# Altium integrated library Lattice FPGA MachXO2.IntLib: 444 symbols (part 36 of 39)
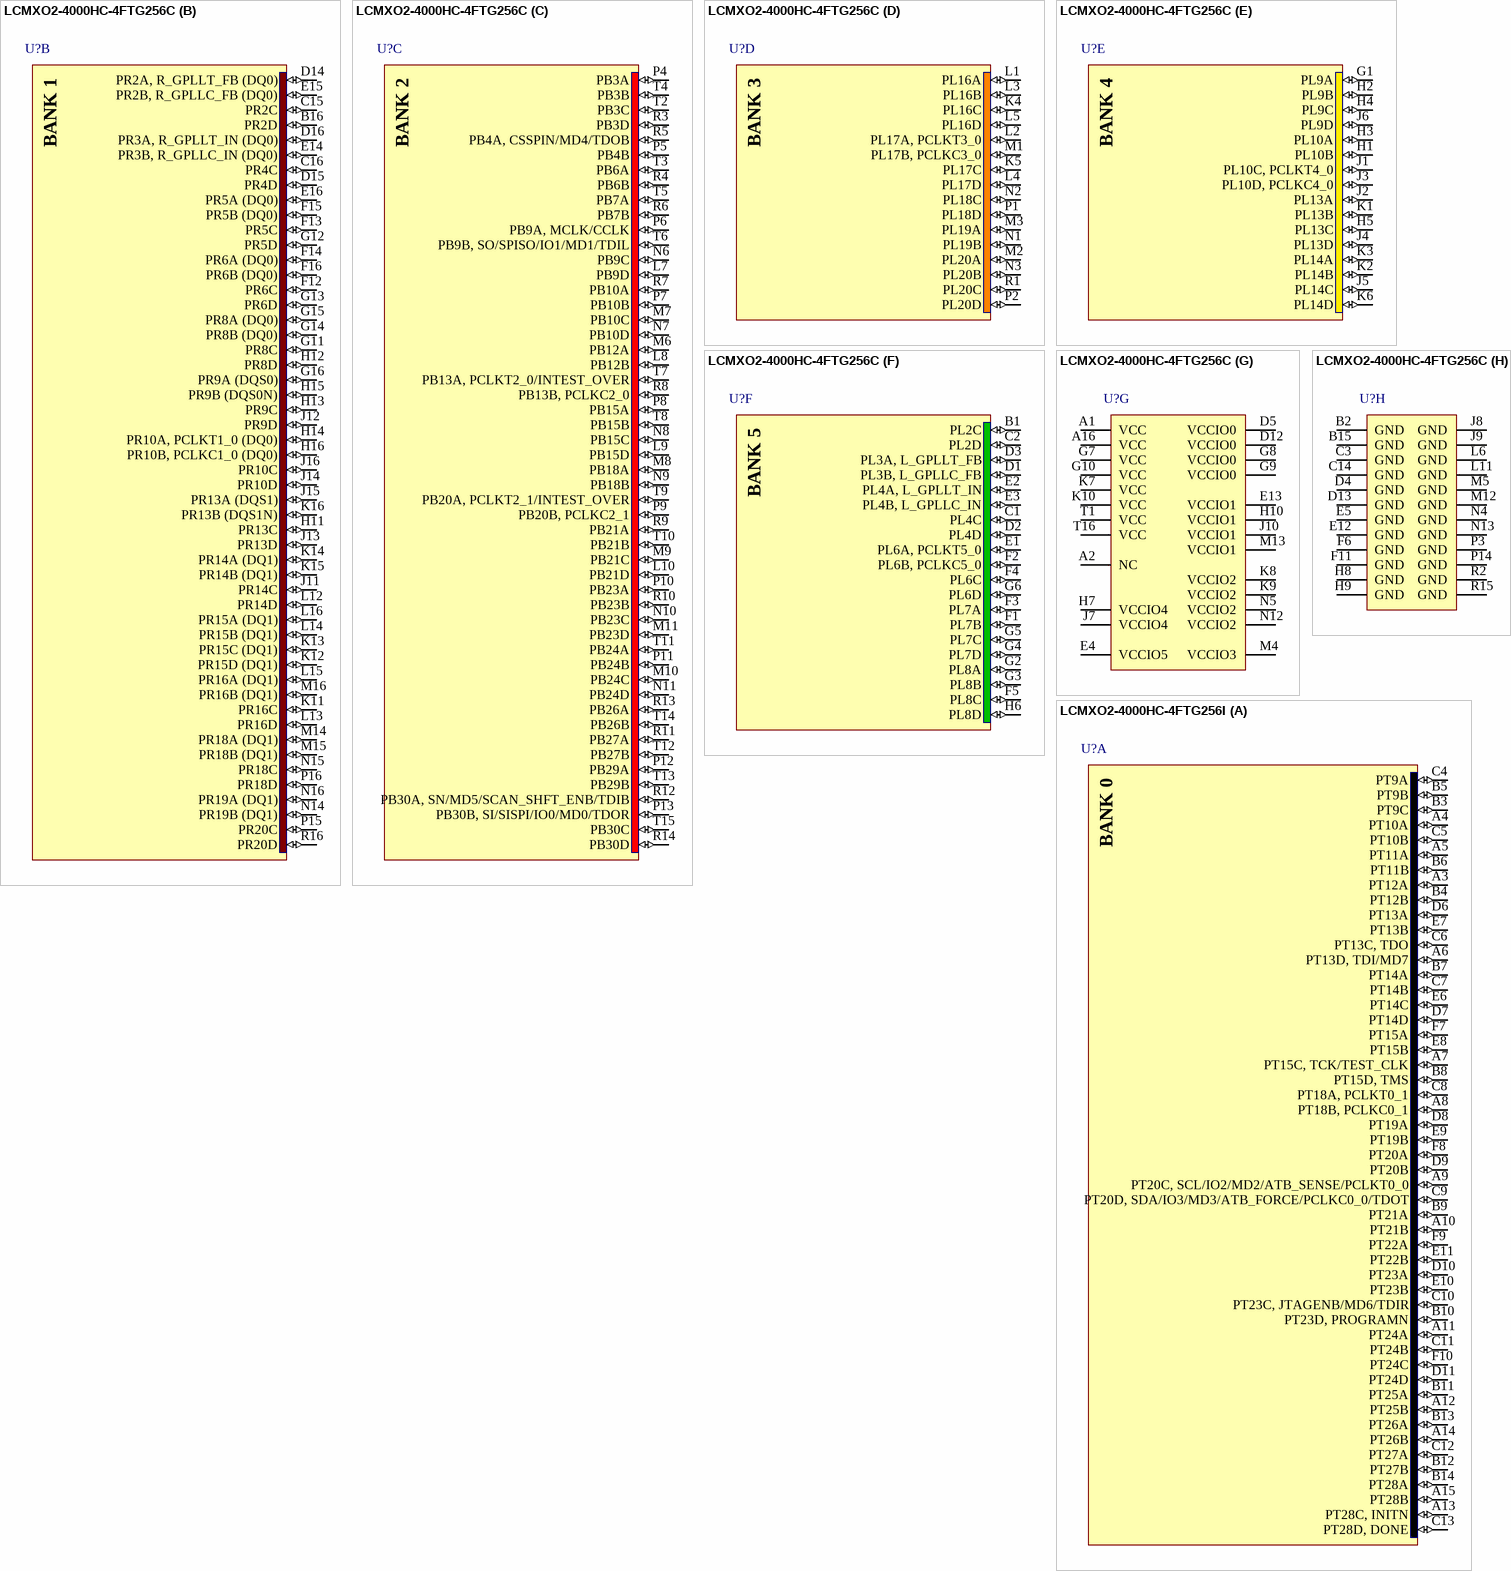
[diagram p341: symbols LCMXO2-4000HC-4FTG256C to LCMXO2-4000HC-4FTG256I]

## LCMXO2-4000HC-4FTG256C
designator U?
MachXO2 High Performance CPLD with 4320 LUTs, Voltage Regulator, 2.5V/3.3V, 256-pin ftBGA, Speed Grade-4, Commercial Grade, Halogen Free (RoHS); DatasheetVersion: ver01.5, Aug-2011; PackageVersion: ver02.8, Jul-2011; PackageReference: ftBGA256; PackageDescription: 256-Ball Fine Thin Ball Grid Array (ftBGA256); ComponentLink1Description: Manufacturer URL; ComponentLink1URL: http://www.latticesemi.com/; ComponentLink2Description: Datasheet; ComponentLink2URL: http://www.latticesemi.com/documents/DS1035.pdf; ComponentLink3Description: Package Specification; ComponentLink3URL: http://www.latticesemi.com/lit/docs/package/pkg.pdf
footprint ftBGA256 (BGA, 256-Leads, Body 17x17mm, Pitch 1mm)
part A pins: A3 PT12A (io), A4 PT10A (io), A5 PT11A (io), A6 PT13D, TDI/MD7 (io), A7 PT15C, TCK/TEST_CLK (io), A8 PT18B, PCLKC0_1 (io), A9 PT20C, SCL/IO2/MD2/ATB_SENSE/PCLKT0_0 (io), A10 PT21B (io), A11 PT24A (io), A12 PT25B (io), A13 PT28C, INITN (io), A14 PT26B (io), A15 PT28B (io), B3 PT9C (io), B4 PT12B (io), B5 PT9B (io), B6 PT11B (io), B7 PT14A (io), B8 PT15D, TMS (io), B9 PT21A (io), B10 PT23D, PROGRAMN (io), B11 PT25A (io), B12 PT27B (io), B13 PT26A (io), B14 PT28A (io), C4 PT9A (io), C5 PT10B (io), C6 PT13C, TDO (io), C7 PT14B (io), C8 PT18A, PCLKT0_1 (io), C9 PT20D, SDA/IO3/MD3/ATB_FORCE/PCLKC0_0/TDOT (io), C10 PT23C, JTAGENB/MD6/TDIR (io), C11 PT24B (io), C12 PT27A (io), C13 PT28D, DONE (io), D6 PT13A (io), D7 PT14D (io), D8 PT19A (io), D9 PT20B (io), D10 PT23A (io), D11 PT24D (io), E6 PT14C (io), E7 PT13B (io), E8 PT15B (io), E9 PT19B (io), E10 PT23B (io), E11 PT22B (io), F7 PT15A (io), F8 PT20A (io), F9 PT22A (io), F10 PT24C (io)
part B pins: B16 PR2D (io), C15 PR2C (io), C16 PR4C (io), D14 PR2A, R_GPLLT_FB (DQ0) (io), D15 PR4D (io), D16 PR3A, R_GPLLT_IN (DQ0) (io), E14 PR3B, R_GPLLC_IN (DQ0) (io), E15 PR2B, R_GPLLC_FB (DQ0) (io), E16 PR5A (DQ0) (io), F12 PR6C (io), F13 PR5C (io), F14 PR6A (DQ0) (io), F15 PR5B (DQ0) (io), F16 PR6B (DQ0) (io), G11 PR8C (io), G12 PR5D (io), G13 PR6D (io), G14 PR8B (DQ0) (io), G15 PR8A (DQ0) (io), G16 PR9A (DQS0) (io), H11 PR13C (io), H12 PR8D (io), H13 PR9C (io), H14 PR10A, PCLKT1_0 (DQ0) (io), H15 PR9B (DQS0N) (io), H16 PR10B, PCLKC1_0 (DQ0) (io), J11 PR14C (io), J12 PR9D (io), J13 PR13D (io), J14 PR10D (io), J15 PR13A (DQS1) (io), J16 PR10C (io), K11 PR16C (io), K12 PR15D (DQ1) (io), K13 PR15C (DQ1) (io), K14 PR14A (DQ1) (io), K15 PR14B (DQ1) (io), K16 PR13B (DQS1N) (io), L12 PR14D (io), L13 PR16D (io), L14 PR15B (DQ1) (io), L15 PR16A (DQ1) (io), L16 PR15A (DQ1) (io), M14 PR18A (DQ1) (io), M15 PR18B (DQ1) (io), M16 PR16B (DQ1) (io), N14 PR19B (DQ1) (io), N15 PR18C (io), N16 PR19A (DQ1) (io), P15 PR20C (io), P16 PR18D (io), R16 PR20D (io)
part C pins: L7 PB9D (io), L8 PB12B (io), L9 PB15D (io), L10 PB21D (io), M6 PB12A (io), M7 PB10C (io), M8 PB18A (io), M9 PB21C (io), M10 PB24C (io), M11 PB23D (io), N6 PB9C (io), N7 PB10D (io), N8 PB15C (io), N9 PB18B (io), N10 PB23C (io), N11 PB24D (io), P4 PB3A (io), P5 PB4B (io), P6 PB9A, MCLK/CCLK (io), P7 PB10B (io), P8 PB15A (io), P9 PB20B, PCLKC2_1 (io), P10 PB23A (io), P11 PB24B (io), P12 PB29A (io), P13 PB30B, SI/SISPI/IO0/MD0/TDOR (io), R3 PB3D (io), R4 PB6B (io), R5 PB4A, CSSPIN/MD4/TDOB (io), R6 PB7B (io), R7 PB10A (io), R8 PB13B, PCLKC2_0 (io), R9 PB21A (io), R10 PB23B (io), R11 PB27A (io), R12 PB30A, SN/MD5/SCAN_SHFT_ENB/TDIB (io), R13 PB26A (io), R14 PB30D (io), T2 PB3C (io), T3 PB6A (io), T4 PB3B (io), T5 PB7A (io), T6 PB9B, SO/SPISO/IO1/MD1/TDIL (io), T7 PB13A, PCLKT2_0/INTEST_OVER (io), T8 PB15B (io), T9 PB20A, PCLKT2_1/INTEST_OVER (io), T10 PB21B (io), T11 PB24A (io), T12 PB27B (io), T13 PB29B (io), T14 PB26B (io), T15 PB30C (io)
part D pins: K4 PL16C (io), K5 PL17C (io), L1 PL16A (io), L2 PL17A, PCLKT3_0 (io), L3 PL16B (io), L4 PL17D (io), L5 PL16D (io), M1 PL17B, PCLKC3_0 (io), M2 PL20A (io), M3 PL19A (io), N1 PL19B (io), N2 PL18C (io), N3 PL20B (io), P1 PL18D (io), P2 PL20D (io), R1 PL20C (io)
part E pins: G1 PL9A (io), H1 PL10B (io), H2 PL9B (io), H3 PL10A (io), H4 PL9C (io), H5 PL13C (io), J1 PL10C, PCLKT4_0 (io), J2 PL13A (io), J3 PL10D, PCLKC4_0 (io), J4 PL13D (io), J5 PL14C (io), J6 PL9D (io), K1 PL13B (io), K2 PL14B (io), K3 PL14A (io), K6 PL14D (io)
part F pins: B1 PL2C (io), C1 PL4C (io), C2 PL2D (io), D1 PL3B, L_GPLLC_FB (io), D2 PL4D (io), D3 PL3A, L_GPLLT_FB (io), E1 PL6A, PCLKT5_0 (io), E2 PL4A, L_GPLLT_IN (io), E3 PL4B, L_GPLLC_IN (io), F1 PL7B (io), F2 PL6B, PCLKC5_0 (io), F3 PL7A (io), F4 PL6C (io), F5 PL8C (io), G2 PL8A (io), G3 PL8B (io), G4 PL7D (io), G5 PL7C (io), G6 PL6D (io), H6 PL8D (io)
part G pins: A1 VCC (power), A2 NC, A16 VCC (power), D5 VCCIO0 (power), D12 VCCIO0 (power), E4 VCCIO5 (power), E13 VCCIO1 (power), G7 VCC (power), G8 VCCIO0 (power), G9 VCCIO0 (power), G10 VCC (power), H7 VCCIO4 (power), H10 VCCIO1 (power), J7 VCCIO4 (power), J10 VCCIO1 (power), K7 VCC (power), K8 VCCIO2 (power), K9 VCCIO2 (power), K10 VCC (power), M4 VCCIO3 (power), M13 VCCIO1 (power), N5 VCCIO2 (power), N12 VCCIO2 (power), T1 VCC (power), T16 VCC (power)
part H pins: B2 GND (power), B15 GND (power), C3 GND (power), C14 GND (power), D4 GND (power), D13 GND (power), E5 GND (power), E12 GND (power), F6 GND (power), F11 GND (power), H8 GND (power), H9 GND (power), J8 GND (power), J9 GND (power), L6 GND (power), L11 GND (power), M5 GND (power), M12 GND (power), N4 GND (power), N13 GND (power), P3 GND (power), P14 GND (power), R2 GND (power), R15 GND (power)
part A text: BANK 0
part B text: BANK 1
part C text: BANK 2
part D text: BANK 3
part E text: BANK 4
part F text: BANK 5

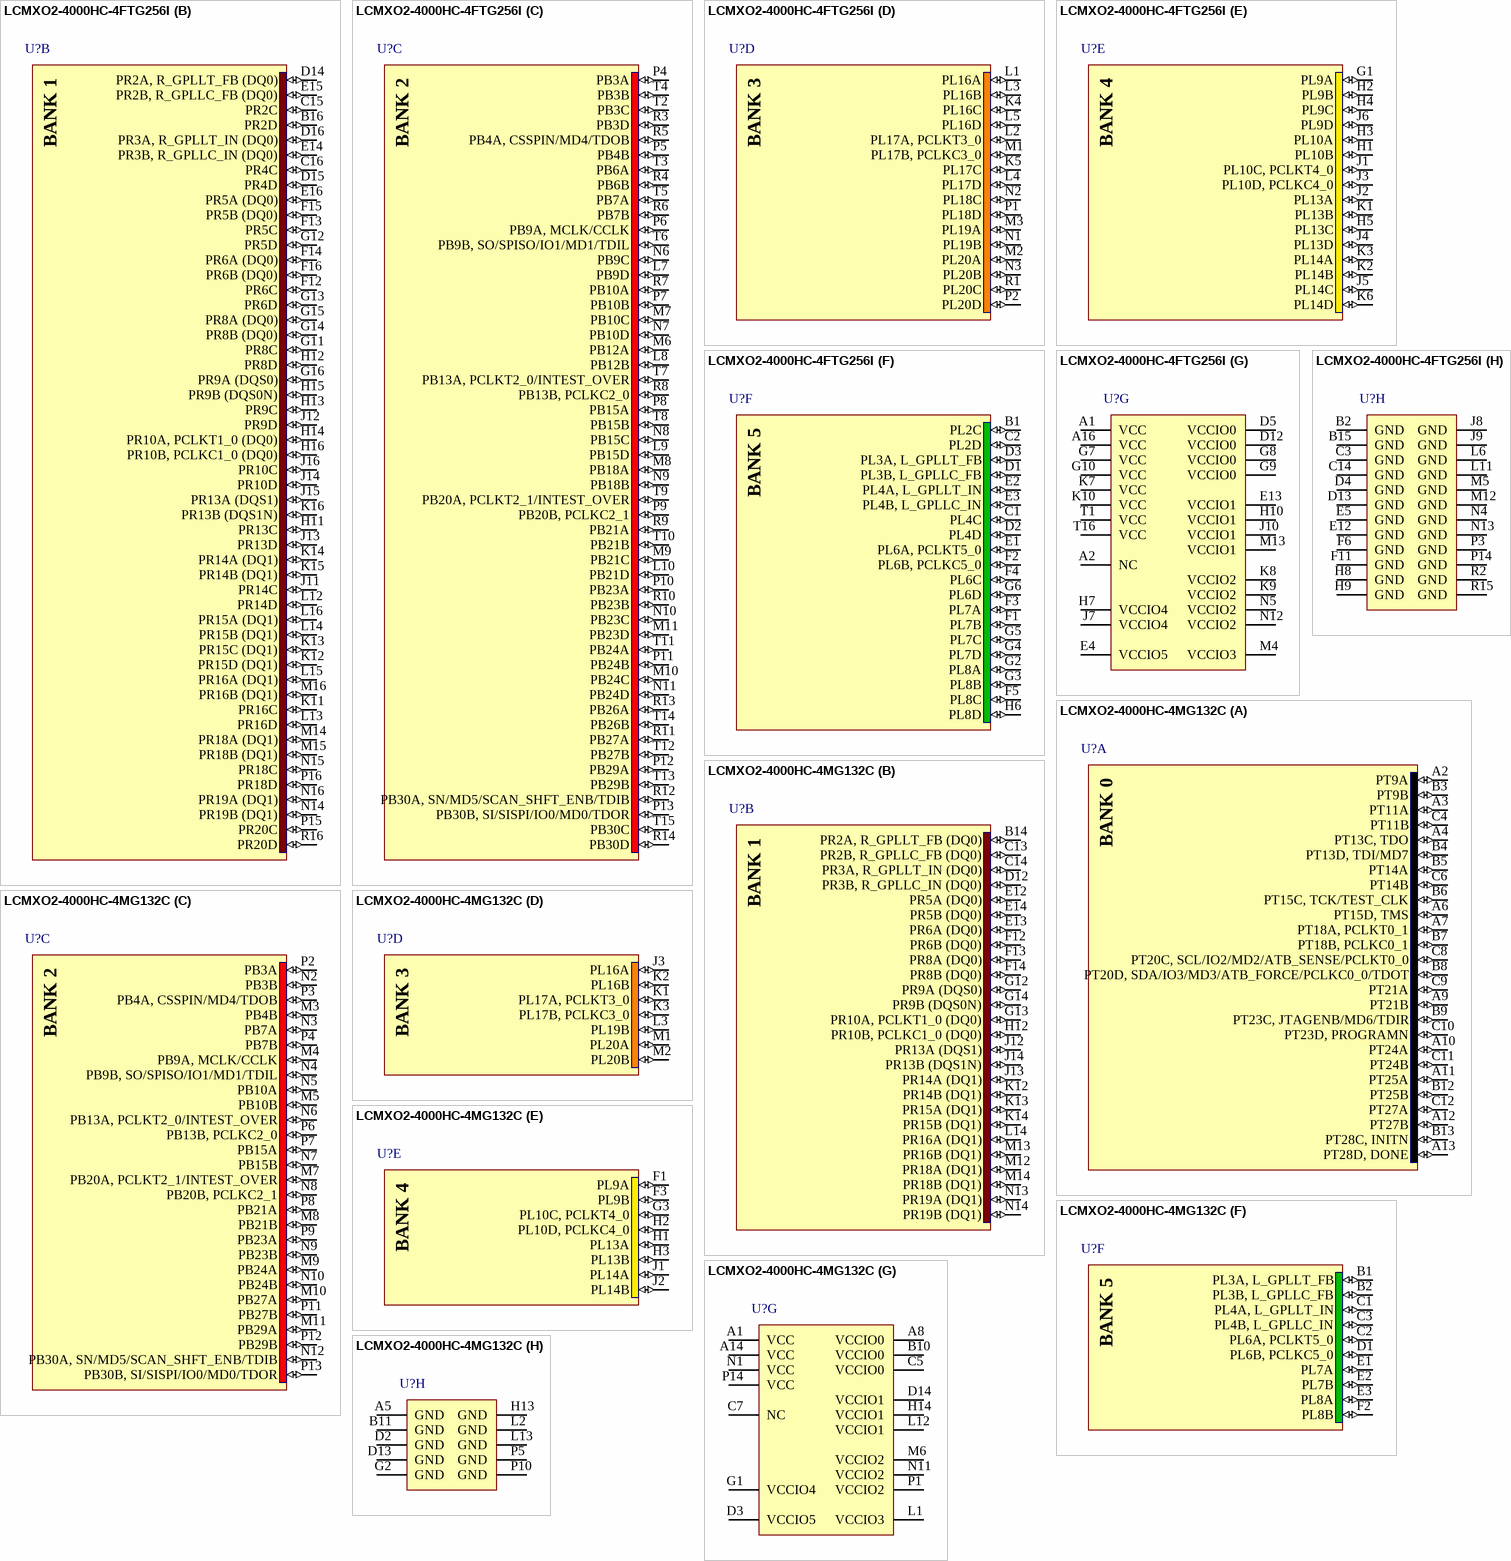
[diagram p144: symbols LCMXO2-4000HC-4FTG256I to LCMXO2-4000HC-4MG132C]

## LCMXO2-4000HC-4FTG256I
designator U?
MachXO2 High Performance CPLD with 4320 LUTs, Voltage Regulator, 2.5V/3.3V, 256-pin ftBGA, Speed Grade-4, Industrial Grade, Halogen Free (RoHS); DatasheetVersion: ver01.5, Aug-2011; PackageVersion: ver02.8, Jul-2011; PackageReference: ftBGA256; PackageDescription: 256-Ball Fine Thin Ball Grid Array (ftBGA256); ComponentLink1Description: Manufacturer URL; ComponentLink1URL: http://www.latticesemi.com/; ComponentLink2Description: Datasheet; ComponentLink2URL: http://www.latticesemi.com/documents/DS1035.pdf; ComponentLink3Description: Package Specification; ComponentLink3URL: http://www.latticesemi.com/lit/docs/package/pkg.pdf
footprint ftBGA256 (BGA, 256-Leads, Body 17x17mm, Pitch 1mm)
part A pins: A3 PT12A (io), A4 PT10A (io), A5 PT11A (io), A6 PT13D, TDI/MD7 (io), A7 PT15C, TCK/TEST_CLK (io), A8 PT18B, PCLKC0_1 (io), A9 PT20C, SCL/IO2/MD2/ATB_SENSE/PCLKT0_0 (io), A10 PT21B (io), A11 PT24A (io), A12 PT25B (io), A13 PT28C, INITN (io), A14 PT26B (io), A15 PT28B (io), B3 PT9C (io), B4 PT12B (io), B5 PT9B (io), B6 PT11B (io), B7 PT14A (io), B8 PT15D, TMS (io), B9 PT21A (io), B10 PT23D, PROGRAMN (io), B11 PT25A (io), B12 PT27B (io), B13 PT26A (io), B14 PT28A (io), C4 PT9A (io), C5 PT10B (io), C6 PT13C, TDO (io), C7 PT14B (io), C8 PT18A, PCLKT0_1 (io), C9 PT20D, SDA/IO3/MD3/ATB_FORCE/PCLKC0_0/TDOT (io), C10 PT23C, JTAGENB/MD6/TDIR (io), C11 PT24B (io), C12 PT27A (io), C13 PT28D, DONE (io), D6 PT13A (io), D7 PT14D (io), D8 PT19A (io), D9 PT20B (io), D10 PT23A (io), D11 PT24D (io), E6 PT14C (io), E7 PT13B (io), E8 PT15B (io), E9 PT19B (io), E10 PT23B (io), E11 PT22B (io), F7 PT15A (io), F8 PT20A (io), F9 PT22A (io), F10 PT24C (io)
part B pins: B16 PR2D (io), C15 PR2C (io), C16 PR4C (io), D14 PR2A, R_GPLLT_FB (DQ0) (io), D15 PR4D (io), D16 PR3A, R_GPLLT_IN (DQ0) (io), E14 PR3B, R_GPLLC_IN (DQ0) (io), E15 PR2B, R_GPLLC_FB (DQ0) (io), E16 PR5A (DQ0) (io), F12 PR6C (io), F13 PR5C (io), F14 PR6A (DQ0) (io), F15 PR5B (DQ0) (io), F16 PR6B (DQ0) (io), G11 PR8C (io), G12 PR5D (io), G13 PR6D (io), G14 PR8B (DQ0) (io), G15 PR8A (DQ0) (io), G16 PR9A (DQS0) (io), H11 PR13C (io), H12 PR8D (io), H13 PR9C (io), H14 PR10A, PCLKT1_0 (DQ0) (io), H15 PR9B (DQS0N) (io), H16 PR10B, PCLKC1_0 (DQ0) (io), J11 PR14C (io), J12 PR9D (io), J13 PR13D (io), J14 PR10D (io), J15 PR13A (DQS1) (io), J16 PR10C (io), K11 PR16C (io), K12 PR15D (DQ1) (io), K13 PR15C (DQ1) (io), K14 PR14A (DQ1) (io), K15 PR14B (DQ1) (io), K16 PR13B (DQS1N) (io), L12 PR14D (io), L13 PR16D (io), L14 PR15B (DQ1) (io), L15 PR16A (DQ1) (io), L16 PR15A (DQ1) (io), M14 PR18A (DQ1) (io), M15 PR18B (DQ1) (io), M16 PR16B (DQ1) (io), N14 PR19B (DQ1) (io), N15 PR18C (io), N16 PR19A (DQ1) (io), P15 PR20C (io), P16 PR18D (io), R16 PR20D (io)
part C pins: L7 PB9D (io), L8 PB12B (io), L9 PB15D (io), L10 PB21D (io), M6 PB12A (io), M7 PB10C (io), M8 PB18A (io), M9 PB21C (io), M10 PB24C (io), M11 PB23D (io), N6 PB9C (io), N7 PB10D (io), N8 PB15C (io), N9 PB18B (io), N10 PB23C (io), N11 PB24D (io), P4 PB3A (io), P5 PB4B (io), P6 PB9A, MCLK/CCLK (io), P7 PB10B (io), P8 PB15A (io), P9 PB20B, PCLKC2_1 (io), P10 PB23A (io), P11 PB24B (io), P12 PB29A (io), P13 PB30B, SI/SISPI/IO0/MD0/TDOR (io), R3 PB3D (io), R4 PB6B (io), R5 PB4A, CSSPIN/MD4/TDOB (io), R6 PB7B (io), R7 PB10A (io), R8 PB13B, PCLKC2_0 (io), R9 PB21A (io), R10 PB23B (io), R11 PB27A (io), R12 PB30A, SN/MD5/SCAN_SHFT_ENB/TDIB (io), R13 PB26A (io), R14 PB30D (io), T2 PB3C (io), T3 PB6A (io), T4 PB3B (io), T5 PB7A (io), T6 PB9B, SO/SPISO/IO1/MD1/TDIL (io), T7 PB13A, PCLKT2_0/INTEST_OVER (io), T8 PB15B (io), T9 PB20A, PCLKT2_1/INTEST_OVER (io), T10 PB21B (io), T11 PB24A (io), T12 PB27B (io), T13 PB29B (io), T14 PB26B (io), T15 PB30C (io)
part D pins: K4 PL16C (io), K5 PL17C (io), L1 PL16A (io), L2 PL17A, PCLKT3_0 (io), L3 PL16B (io), L4 PL17D (io), L5 PL16D (io), M1 PL17B, PCLKC3_0 (io), M2 PL20A (io), M3 PL19A (io), N1 PL19B (io), N2 PL18C (io), N3 PL20B (io), P1 PL18D (io), P2 PL20D (io), R1 PL20C (io)
part E pins: G1 PL9A (io), H1 PL10B (io), H2 PL9B (io), H3 PL10A (io), H4 PL9C (io), H5 PL13C (io), J1 PL10C, PCLKT4_0 (io), J2 PL13A (io), J3 PL10D, PCLKC4_0 (io), J4 PL13D (io), J5 PL14C (io), J6 PL9D (io), K1 PL13B (io), K2 PL14B (io), K3 PL14A (io), K6 PL14D (io)
part F pins: B1 PL2C (io), C1 PL4C (io), C2 PL2D (io), D1 PL3B, L_GPLLC_FB (io), D2 PL4D (io), D3 PL3A, L_GPLLT_FB (io), E1 PL6A, PCLKT5_0 (io), E2 PL4A, L_GPLLT_IN (io), E3 PL4B, L_GPLLC_IN (io), F1 PL7B (io), F2 PL6B, PCLKC5_0 (io), F3 PL7A (io), F4 PL6C (io), F5 PL8C (io), G2 PL8A (io), G3 PL8B (io), G4 PL7D (io), G5 PL7C (io), G6 PL6D (io), H6 PL8D (io)
part G pins: A1 VCC (power), A2 NC, A16 VCC (power), D5 VCCIO0 (power), D12 VCCIO0 (power), E4 VCCIO5 (power), E13 VCCIO1 (power), G7 VCC (power), G8 VCCIO0 (power), G9 VCCIO0 (power), G10 VCC (power), H7 VCCIO4 (power), H10 VCCIO1 (power), J7 VCCIO4 (power), J10 VCCIO1 (power), K7 VCC (power), K8 VCCIO2 (power), K9 VCCIO2 (power), K10 VCC (power), M4 VCCIO3 (power), M13 VCCIO1 (power), N5 VCCIO2 (power), N12 VCCIO2 (power), T1 VCC (power), T16 VCC (power)
part H pins: B2 GND (power), B15 GND (power), C3 GND (power), C14 GND (power), D4 GND (power), D13 GND (power), E5 GND (power), E12 GND (power), F6 GND (power), F11 GND (power), H8 GND (power), H9 GND (power), J8 GND (power), J9 GND (power), L6 GND (power), L11 GND (power), M5 GND (power), M12 GND (power), N4 GND (power), N13 GND (power), P3 GND (power), P14 GND (power), R2 GND (power), R15 GND (power)
part A text: BANK 0
part B text: BANK 1
part C text: BANK 2
part D text: BANK 3
part E text: BANK 4
part F text: BANK 5

## LCMXO2-4000HC-4MG132C
designator U?
MachXO2 High Performance CPLD with 4320 LUTs, Voltage Regulator, 2.5V/3.3V, 132-pin csBGA, Speed Grade-4, Commercial Grade, Halogen Free (RoHS); DatasheetVersion: ver01.5, Aug-2011; PackageVersion: ver02.8, Jul-2011; PackageReference: csBGA132; PackageDescription: 132-Ball Chip Scale Ball Grid Array (csBGA132); ComponentLink1Description: Manufacturer URL; ComponentLink1URL: http://www.latticesemi.com/; ComponentLink2Description: Datasheet; ComponentLink2URL: http://www.latticesemi.com/documents/DS1035.pdf; ComponentLink3Description: Package Specification; ComponentLink3URL: http://www.latticesemi.com/lit/docs/package/pkg.pdf
footprint csBGA132 (BGA, 132-Leads, Body 8x8mm, Pitch 0.5mm)
part A pins: A2 PT9A (io), A3 PT11A (io), A4 PT13C, TDO (io), A6 PT15D, TMS (io), A7 PT18A, PCLKT0_1 (io), A9 PT21B (io), A10 PT24A (io), A11 PT25A (io), A12 PT27B (io), A13 PT28D, DONE (io), B3 PT9B (io), B4 PT13D, TDI/MD7 (io), B5 PT14A (io), B6 PT15C, TCK/TEST_CLK (io), B7 PT18B, PCLKC0_1 (io), B8 PT20D, SDA/IO3/MD3/ATB_FORCE/PCLKC0_0/TDOT (io), B9 PT23C, JTAGENB/MD6/TDIR (io), B12 PT25B (io), B13 PT28C, INITN (io), C4 PT11B (io), C6 PT14B (io), C8 PT20C, SCL/IO2/MD2/ATB_SENSE/PCLKT0_0 (io), C9 PT21A (io), C10 PT23D, PROGRAMN (io), C11 PT24B (io), C12 PT27A (io)
part B pins: B14 PR2A, R_GPLLT_FB (DQ0) (io), C13 PR2B, R_GPLLC_FB (DQ0) (io), C14 PR3A, R_GPLLT_IN (DQ0) (io), D12 PR3B, R_GPLLC_IN (DQ0) (io), E12 PR5A (DQ0) (io), E13 PR6A (DQ0) (io), E14 PR5B (DQ0) (io), F12 PR6B (DQ0) (io), F13 PR8A (DQ0) (io), F14 PR8B (DQ0) (io), G12 PR9A (DQS0) (io), G13 PR10A, PCLKT1_0 (DQ0) (io), G14 PR9B (DQS0N) (io), H12 PR10B, PCLKC1_0 (DQ0) (io), J12 PR13A (DQS1) (io), J13 PR14A (DQ1) (io), J14 PR13B (DQS1N) (io), K12 PR14B (DQ1) (io), K13 PR15A (DQ1) (io), K14 PR15B (DQ1) (io), L14 PR16A (DQ1) (io), M12 PR18A (DQ1) (io), M13 PR16B (DQ1) (io), M14 PR18B (DQ1) (io), N13 PR19A (DQ1) (io), N14 PR19B (DQ1) (io)
part C pins: M3 PB4B (io), M4 PB9A, MCLK/CCLK (io), M5 PB10B (io), M7 PB20A, PCLKT2_1/INTEST_OVER (io), M8 PB21B (io), M9 PB24A (io), M10 PB27A (io), M11 PB29A (io), N2 PB3B (io), N3 PB7A (io), N4 PB9B, SO/SPISO/IO1/MD1/TDIL (io), N5 PB10A (io), N6 PB13A, PCLKT2_0/INTEST_OVER (io), N7 PB15B (io), N8 PB20B, PCLKC2_1 (io), N9 PB23B (io), N10 PB24B (io), N12 PB30A, SN/MD5/SCAN_SHFT_ENB/TDIB (io), P2 PB3A (io), P3 PB4A, CSSPIN/MD4/TDOB (io), P4 PB7B (io), P6 PB13B, PCLKC2_0 (io), P7 PB15A (io), P8 PB21A (io), P9 PB23A (io), P11 PB27B (io), P12 PB29B (io), P13 PB30B, SI/SISPI/IO0/MD0/TDOR (io)
part D pins: J3 PL16A (io), K1 PL17A, PCLKT3_0 (io), K2 PL16B (io), K3 PL17B, PCLKC3_0 (io), L3 PL19B (io), M1 PL20A (io), M2 PL20B (io)
part E pins: F1 PL9A (io), F3 PL9B (io), G3 PL10C, PCLKT4_0 (io), H1 PL13A (io), H2 PL10D, PCLKC4_0 (io), H3 PL13B (io), J1 PL14A (io), J2 PL14B (io)
part F pins: B1 PL3A, L_GPLLT_FB (io), B2 PL3B, L_GPLLC_FB (io), C1 PL4A, L_GPLLT_IN (io), C2 PL6A, PCLKT5_0 (io), C3 PL4B, L_GPLLC_IN (io), D1 PL6B, PCLKC5_0 (io), E1 PL7A (io), E2 PL7B (io), E3 PL8A (io), F2 PL8B (io)
part G pins: A1 VCC (power), A8 VCCIO0 (power), A14 VCC (power), B10 VCCIO0 (power), C5 VCCIO0 (power), C7 NC, D3 VCCIO5 (power), D14 VCCIO1 (power), G1 VCCIO4 (power), H14 VCCIO1 (power), L1 VCCIO3 (power), L12 VCCIO1 (power), M6 VCCIO2 (power), N1 VCC (power), N11 VCCIO2 (power), P1 VCCIO2 (power), P14 VCC (power)
part H pins: A5 GND (power), B11 GND (power), D2 GND (power), D13 GND (power), G2 GND (power), H13 GND (power), L2 GND (power), L13 GND (power), P5 GND (power), P10 GND (power)
part A text: BANK 0
part B text: BANK 1
part C text: BANK 2
part D text: BANK 3
part E text: BANK 4
part F text: BANK 5

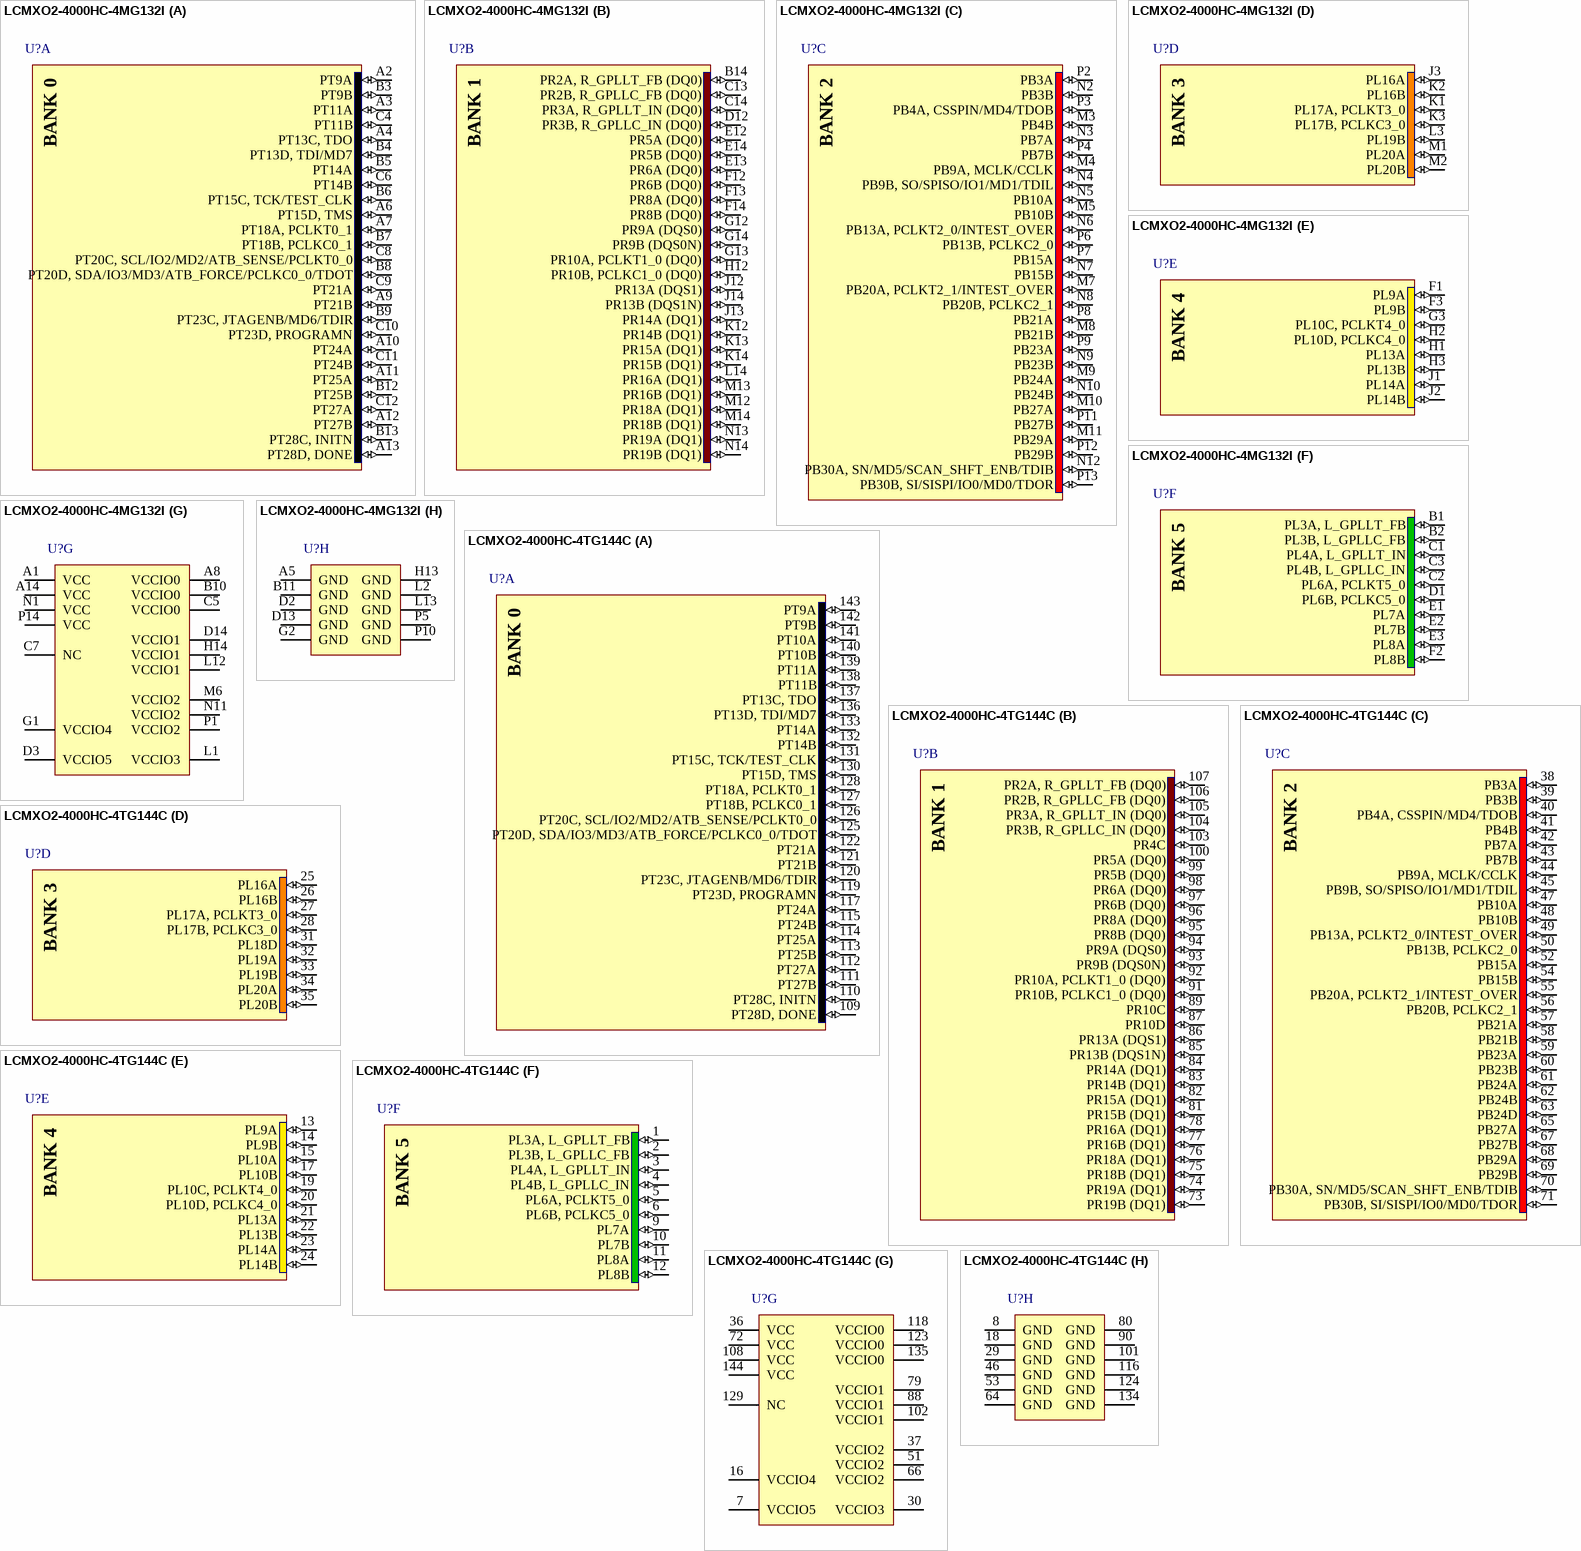
[diagram p145: symbols LCMXO2-4000HC-4MG132I to LCMXO2-4000HC-4TG144C]

## LCMXO2-4000HC-4MG132I
designator U?
MachXO2 High Performance CPLD with 4320 LUTs, Voltage Regulator, 2.5V/3.3V, 132-pin csBGA, Speed Grade-4, Industrial Grade, Halogen Free (RoHS); DatasheetVersion: ver01.5, Aug-2011; PackageVersion: ver02.8, Jul-2011; PackageReference: csBGA132; PackageDescription: 132-Ball Chip Scale Ball Grid Array (csBGA132); ComponentLink1Description: Manufacturer URL; ComponentLink1URL: http://www.latticesemi.com/; ComponentLink2Description: Datasheet; ComponentLink2URL: http://www.latticesemi.com/documents/DS1035.pdf; ComponentLink3Description: Package Specification; ComponentLink3URL: http://www.latticesemi.com/lit/docs/package/pkg.pdf
footprint csBGA132 (BGA, 132-Leads, Body 8x8mm, Pitch 0.5mm)
part A pins: A2 PT9A (io), A3 PT11A (io), A4 PT13C, TDO (io), A6 PT15D, TMS (io), A7 PT18A, PCLKT0_1 (io), A9 PT21B (io), A10 PT24A (io), A11 PT25A (io), A12 PT27B (io), A13 PT28D, DONE (io), B3 PT9B (io), B4 PT13D, TDI/MD7 (io), B5 PT14A (io), B6 PT15C, TCK/TEST_CLK (io), B7 PT18B, PCLKC0_1 (io), B8 PT20D, SDA/IO3/MD3/ATB_FORCE/PCLKC0_0/TDOT (io), B9 PT23C, JTAGENB/MD6/TDIR (io), B12 PT25B (io), B13 PT28C, INITN (io), C4 PT11B (io), C6 PT14B (io), C8 PT20C, SCL/IO2/MD2/ATB_SENSE/PCLKT0_0 (io), C9 PT21A (io), C10 PT23D, PROGRAMN (io), C11 PT24B (io), C12 PT27A (io)
part B pins: B14 PR2A, R_GPLLT_FB (DQ0) (io), C13 PR2B, R_GPLLC_FB (DQ0) (io), C14 PR3A, R_GPLLT_IN (DQ0) (io), D12 PR3B, R_GPLLC_IN (DQ0) (io), E12 PR5A (DQ0) (io), E13 PR6A (DQ0) (io), E14 PR5B (DQ0) (io), F12 PR6B (DQ0) (io), F13 PR8A (DQ0) (io), F14 PR8B (DQ0) (io), G12 PR9A (DQS0) (io), G13 PR10A, PCLKT1_0 (DQ0) (io), G14 PR9B (DQS0N) (io), H12 PR10B, PCLKC1_0 (DQ0) (io), J12 PR13A (DQS1) (io), J13 PR14A (DQ1) (io), J14 PR13B (DQS1N) (io), K12 PR14B (DQ1) (io), K13 PR15A (DQ1) (io), K14 PR15B (DQ1) (io), L14 PR16A (DQ1) (io), M12 PR18A (DQ1) (io), M13 PR16B (DQ1) (io), M14 PR18B (DQ1) (io), N13 PR19A (DQ1) (io), N14 PR19B (DQ1) (io)
part C pins: M3 PB4B (io), M4 PB9A, MCLK/CCLK (io), M5 PB10B (io), M7 PB20A, PCLKT2_1/INTEST_OVER (io), M8 PB21B (io), M9 PB24A (io), M10 PB27A (io), M11 PB29A (io), N2 PB3B (io), N3 PB7A (io), N4 PB9B, SO/SPISO/IO1/MD1/TDIL (io), N5 PB10A (io), N6 PB13A, PCLKT2_0/INTEST_OVER (io), N7 PB15B (io), N8 PB20B, PCLKC2_1 (io), N9 PB23B (io), N10 PB24B (io), N12 PB30A, SN/MD5/SCAN_SHFT_ENB/TDIB (io), P2 PB3A (io), P3 PB4A, CSSPIN/MD4/TDOB (io), P4 PB7B (io), P6 PB13B, PCLKC2_0 (io), P7 PB15A (io), P8 PB21A (io), P9 PB23A (io), P11 PB27B (io), P12 PB29B (io), P13 PB30B, SI/SISPI/IO0/MD0/TDOR (io)
part D pins: J3 PL16A (io), K1 PL17A, PCLKT3_0 (io), K2 PL16B (io), K3 PL17B, PCLKC3_0 (io), L3 PL19B (io), M1 PL20A (io), M2 PL20B (io)
part E pins: F1 PL9A (io), F3 PL9B (io), G3 PL10C, PCLKT4_0 (io), H1 PL13A (io), H2 PL10D, PCLKC4_0 (io), H3 PL13B (io), J1 PL14A (io), J2 PL14B (io)
part F pins: B1 PL3A, L_GPLLT_FB (io), B2 PL3B, L_GPLLC_FB (io), C1 PL4A, L_GPLLT_IN (io), C2 PL6A, PCLKT5_0 (io), C3 PL4B, L_GPLLC_IN (io), D1 PL6B, PCLKC5_0 (io), E1 PL7A (io), E2 PL7B (io), E3 PL8A (io), F2 PL8B (io)
part G pins: A1 VCC (power), A8 VCCIO0 (power), A14 VCC (power), B10 VCCIO0 (power), C5 VCCIO0 (power), C7 NC, D3 VCCIO5 (power), D14 VCCIO1 (power), G1 VCCIO4 (power), H14 VCCIO1 (power), L1 VCCIO3 (power), L12 VCCIO1 (power), M6 VCCIO2 (power), N1 VCC (power), N11 VCCIO2 (power), P1 VCCIO2 (power), P14 VCC (power)
part H pins: A5 GND (power), B11 GND (power), D2 GND (power), D13 GND (power), G2 GND (power), H13 GND (power), L2 GND (power), L13 GND (power), P5 GND (power), P10 GND (power)
part A text: BANK 0
part B text: BANK 1
part C text: BANK 2
part D text: BANK 3
part E text: BANK 4
part F text: BANK 5

## LCMXO2-4000HC-4TG144C
designator U?
MachXO2 High Performance CPLD with 4320 LUTs, Voltage Regulator, 2.5V/3.3V, 144-pin TQFP, Speed Grade-4, Commercial Grade, Halogen Free (RoHS); DatasheetVersion: ver01.5, Aug-2011; PackageVersion: ver02.8, Jul-2011; PackageReference: TQFP144; PackageDescription: 144-Pin Thin Quad Flat Pack (TQFP144); Code_JEDEC: MS-026-BFB; ComponentLink1Description: Manufacturer URL; ComponentLink1URL: http://www.latticesemi.com/; ComponentLink2Description: Datasheet; ComponentLink2URL: http://www.latticesemi.com/documents/DS1035.pdf; ComponentLink3Description: Package Specification; ComponentLink3URL: http://www.latticesemi.com/lit/docs/package/pkg.pdf
footprint TQFP144_N (Thin QFP, 144-Leads, Body 20x20mm, Pitch 0.5mm, IPC Medium Density)
footprint TQFP144_L (Thin QFP, 144-Leads, Body 20x20mm, Pitch 0.5mm, IPC High Density)
footprint TQFP144_M (Thin QFP, 144-Leads, Body 20x20mm, Pitch 0.5mm, IPC Low Density)
part A pins: 109 PT28D, DONE (io), 110 PT28C, INITN (io), 111 PT27B (io), 112 PT27A (io), 113 PT25B (io), 114 PT25A (io), 115 PT24B (io), 117 PT24A (io), 119 PT23D, PROGRAMN (io), 120 PT23C, JTAGENB/MD6/TDIR (io), 121 PT21B (io), 122 PT21A (io), 125 PT20D, SDA/IO3/MD3/ATB_FORCE/PCLKC0_0/TDOT (io), 126 PT20C, SCL/IO2/MD2/ATB_SENSE/PCLKT0_0 (io), 127 PT18B, PCLKC0_1 (io), 128 PT18A, PCLKT0_1 (io), 130 PT15D, TMS (io), 131 PT15C, TCK/TEST_CLK (io), 132 PT14B (io), 133 PT14A (io), 136 PT13D, TDI/MD7 (io), 137 PT13C, TDO (io), 138 PT11B (io), 139 PT11A (io), 140 PT10B (io), 141 PT10A (io), 142 PT9B (io), 143 PT9A (io)
part B pins: 73 PR19B (DQ1) (io), 74 PR19A (DQ1) (io), 75 PR18B (DQ1) (io), 76 PR18A (DQ1) (io), 77 PR16B (DQ1) (io), 78 PR16A (DQ1) (io), 81 PR15B (DQ1) (io), 82 PR15A (DQ1) (io), 83 PR14B (DQ1) (io), 84 PR14A (DQ1) (io), 85 PR13B (DQS1N) (io), 86 PR13A (DQS1) (io), 87 PR10D (io), 89 PR10C (io), 91 PR10B, PCLKC1_0 (DQ0) (io), 92 PR10A, PCLKT1_0 (DQ0) (io), 93 PR9B (DQS0N) (io), 94 PR9A (DQS0) (io), 95 PR8B (DQ0) (io), 96 PR8A (DQ0) (io), 97 PR6B (DQ0) (io), 98 PR6A (DQ0) (io), 99 PR5B (DQ0) (io), 100 PR5A (DQ0) (io), 103 PR4C (io), 104 PR3B, R_GPLLC_IN (DQ0) (io), 105 PR3A, R_GPLLT_IN (DQ0) (io), 106 PR2B, R_GPLLC_FB (DQ0) (io), 107 PR2A, R_GPLLT_FB (DQ0) (io)
part C pins: 38 PB3A (io), 39 PB3B (io), 40 PB4A, CSSPIN/MD4/TDOB (io), 41 PB4B (io), 42 PB7A (io), 43 PB7B (io), 44 PB9A, MCLK/CCLK (io), 45 PB9B, SO/SPISO/IO1/MD1/TDIL (io), 47 PB10A (io), 48 PB10B (io), 49 PB13A, PCLKT2_0/INTEST_OVER (io), 50 PB13B, PCLKC2_0 (io), 52 PB15A (io), 54 PB15B (io), 55 PB20A, PCLKT2_1/INTEST_OVER (io), 56 PB20B, PCLKC2_1 (io), 57 PB21A (io), 58 PB21B (io), 59 PB23A (io), 60 PB23B (io), 61 PB24A (io), 62 PB24B (io), 63 PB24D (io), 65 PB27A (io), 67 PB27B (io), 68 PB29A (io), 69 PB29B (io), 70 PB30A, SN/MD5/SCAN_SHFT_ENB/TDIB (io), 71 PB30B, SI/SISPI/IO0/MD0/TDOR (io)
part D pins: 25 PL16A (io), 26 PL16B (io), 27 PL17A, PCLKT3_0 (io), 28 PL17B, PCLKC3_0 (io), 31 PL18D (io), 32 PL19A (io), 33 PL19B (io), 34 PL20A (io), 35 PL20B (io)
part E pins: 13 PL9A (io), 14 PL9B (io), 15 PL10A (io), 17 PL10B (io), 19 PL10C, PCLKT4_0 (io), 20 PL10D, PCLKC4_0 (io), 21 PL13A (io), 22 PL13B (io), 23 PL14A (io), 24 PL14B (io)
part F pins: 1 PL3A, L_GPLLT_FB (io), 2 PL3B, L_GPLLC_FB (io), 3 PL4A, L_GPLLT_IN (io), 4 PL4B, L_GPLLC_IN (io), 5 PL6A, PCLKT5_0 (io), 6 PL6B, PCLKC5_0 (io), 9 PL7A (io), 10 PL7B (io), 11 PL8A (io), 12 PL8B (io)
part G pins: 7 VCCIO5 (power), 16 VCCIO4 (power), 30 VCCIO3 (power), 36 VCC (power), 37 VCCIO2 (power), 51 VCCIO2 (power), 66 VCCIO2 (power), 72 VCC (power), 79 VCCIO1 (power), 88 VCCIO1 (power), 102 VCCIO1 (power), 108 VCC (power), 118 VCCIO0 (power), 123 VCCIO0 (power), 129 NC, 135 VCCIO0 (power), 144 VCC (power)
part H pins: 8 GND (power), 18 GND (power), 29 GND (power), 46 GND (power), 53 GND (power), 64 GND (power), 80 GND (power), 90 GND (power), 101 GND (power), 116 GND (power), 124 GND (power), 134 GND (power)
part A text: BANK 0
part B text: BANK 1
part C text: BANK 2
part D text: BANK 3
part E text: BANK 4
part F text: BANK 5

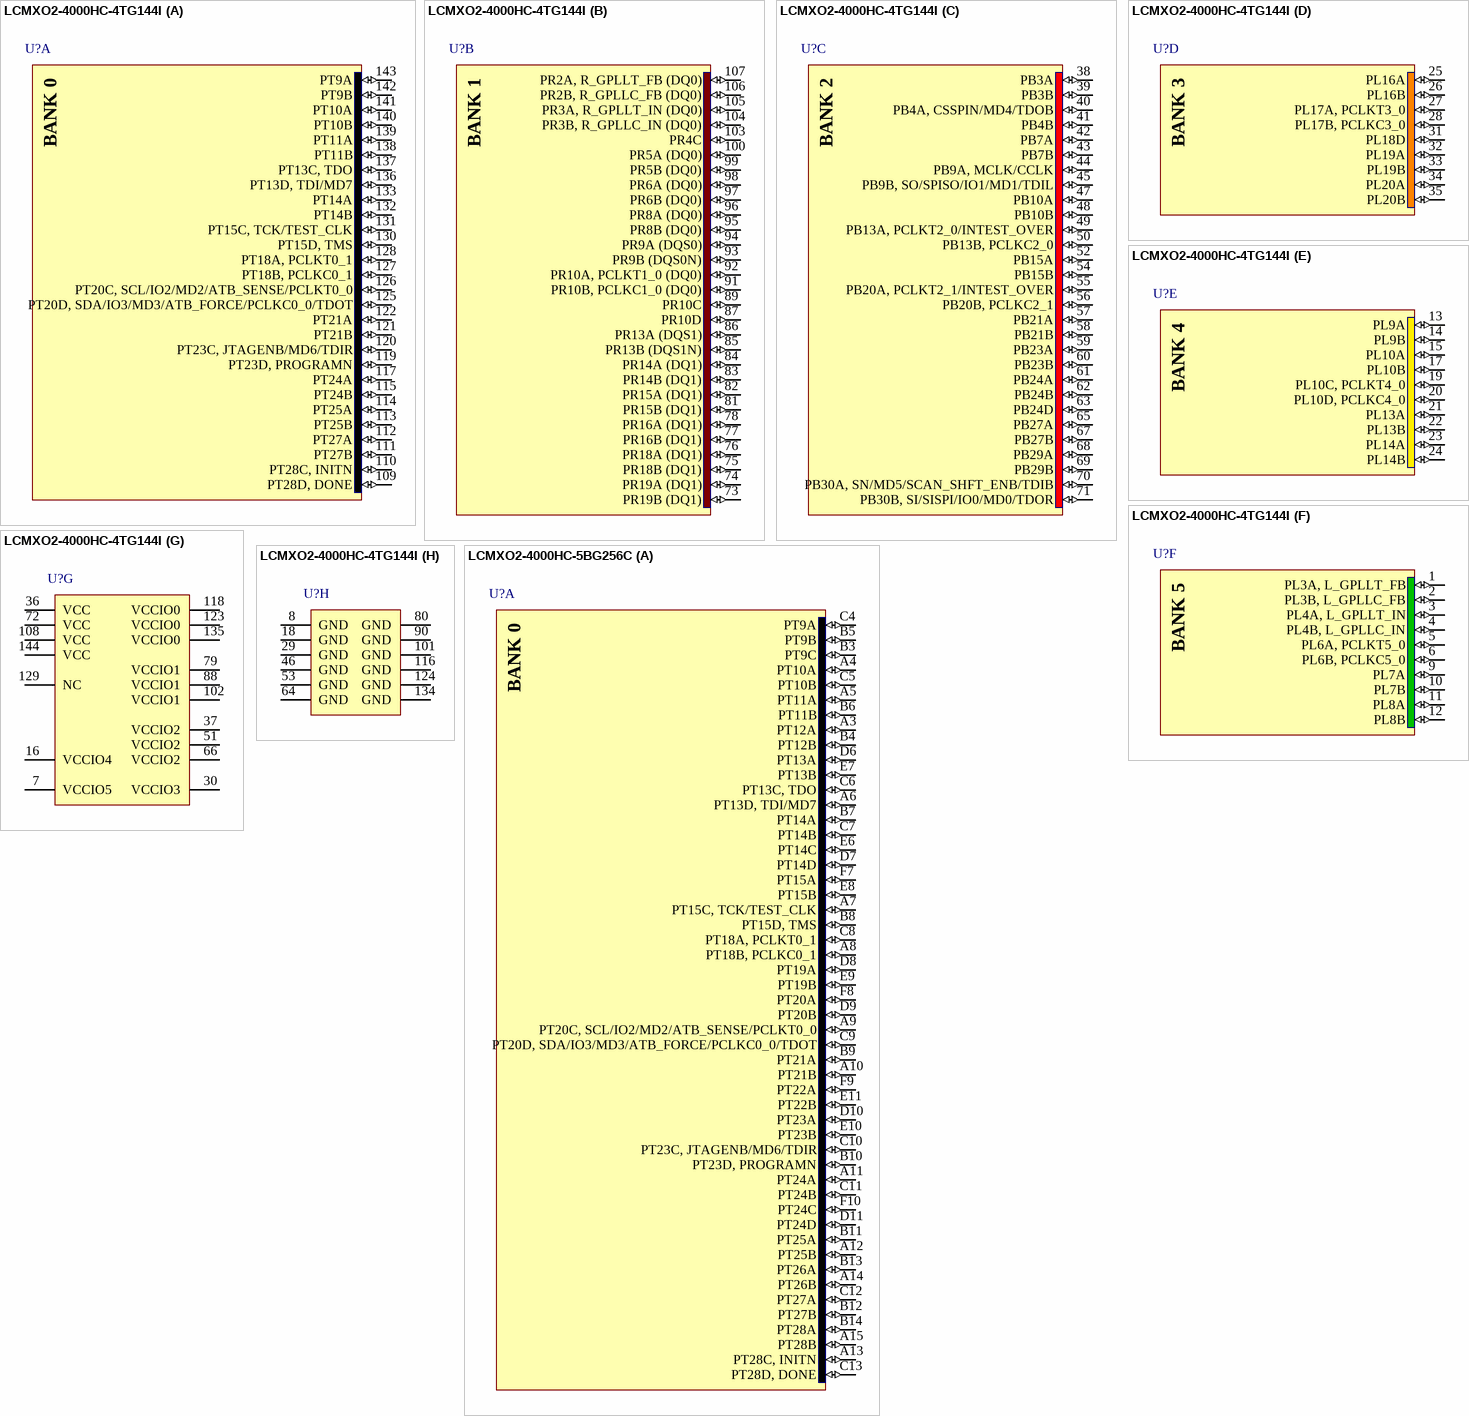
[diagram p146: symbols LCMXO2-4000HC-4TG144I to LCMXO2-4000HC-5BG256C]

## LCMXO2-4000HC-4TG144I
designator U?
MachXO2 High Performance CPLD with 4320 LUTs, Voltage Regulator, 2.5V/3.3V, 144-pin TQFP, Speed Grade-4, Industrial Grade, Halogen Free (RoHS); DatasheetVersion: ver01.5, Aug-2011; PackageVersion: ver02.8, Jul-2011; PackageReference: TQFP144; PackageDescription: 144-Pin Thin Quad Flat Pack (TQFP144); Code_JEDEC: MS-026-BFB; ComponentLink1Description: Manufacturer URL; ComponentLink1URL: http://www.latticesemi.com/; ComponentLink2Description: Datasheet; ComponentLink2URL: http://www.latticesemi.com/documents/DS1035.pdf; ComponentLink3Description: Package Specification; ComponentLink3URL: http://www.latticesemi.com/lit/docs/package/pkg.pdf
footprint TQFP144_N (Thin QFP, 144-Leads, Body 20x20mm, Pitch 0.5mm, IPC Medium Density)
footprint TQFP144_L (Thin QFP, 144-Leads, Body 20x20mm, Pitch 0.5mm, IPC High Density)
footprint TQFP144_M (Thin QFP, 144-Leads, Body 20x20mm, Pitch 0.5mm, IPC Low Density)
part A pins: 109 PT28D, DONE (io), 110 PT28C, INITN (io), 111 PT27B (io), 112 PT27A (io), 113 PT25B (io), 114 PT25A (io), 115 PT24B (io), 117 PT24A (io), 119 PT23D, PROGRAMN (io), 120 PT23C, JTAGENB/MD6/TDIR (io), 121 PT21B (io), 122 PT21A (io), 125 PT20D, SDA/IO3/MD3/ATB_FORCE/PCLKC0_0/TDOT (io), 126 PT20C, SCL/IO2/MD2/ATB_SENSE/PCLKT0_0 (io), 127 PT18B, PCLKC0_1 (io), 128 PT18A, PCLKT0_1 (io), 130 PT15D, TMS (io), 131 PT15C, TCK/TEST_CLK (io), 132 PT14B (io), 133 PT14A (io), 136 PT13D, TDI/MD7 (io), 137 PT13C, TDO (io), 138 PT11B (io), 139 PT11A (io), 140 PT10B (io), 141 PT10A (io), 142 PT9B (io), 143 PT9A (io)
part B pins: 73 PR19B (DQ1) (io), 74 PR19A (DQ1) (io), 75 PR18B (DQ1) (io), 76 PR18A (DQ1) (io), 77 PR16B (DQ1) (io), 78 PR16A (DQ1) (io), 81 PR15B (DQ1) (io), 82 PR15A (DQ1) (io), 83 PR14B (DQ1) (io), 84 PR14A (DQ1) (io), 85 PR13B (DQS1N) (io), 86 PR13A (DQS1) (io), 87 PR10D (io), 89 PR10C (io), 91 PR10B, PCLKC1_0 (DQ0) (io), 92 PR10A, PCLKT1_0 (DQ0) (io), 93 PR9B (DQS0N) (io), 94 PR9A (DQS0) (io), 95 PR8B (DQ0) (io), 96 PR8A (DQ0) (io), 97 PR6B (DQ0) (io), 98 PR6A (DQ0) (io), 99 PR5B (DQ0) (io), 100 PR5A (DQ0) (io), 103 PR4C (io), 104 PR3B, R_GPLLC_IN (DQ0) (io), 105 PR3A, R_GPLLT_IN (DQ0) (io), 106 PR2B, R_GPLLC_FB (DQ0) (io), 107 PR2A, R_GPLLT_FB (DQ0) (io)
part C pins: 38 PB3A (io), 39 PB3B (io), 40 PB4A, CSSPIN/MD4/TDOB (io), 41 PB4B (io), 42 PB7A (io), 43 PB7B (io), 44 PB9A, MCLK/CCLK (io), 45 PB9B, SO/SPISO/IO1/MD1/TDIL (io), 47 PB10A (io), 48 PB10B (io), 49 PB13A, PCLKT2_0/INTEST_OVER (io), 50 PB13B, PCLKC2_0 (io), 52 PB15A (io), 54 PB15B (io), 55 PB20A, PCLKT2_1/INTEST_OVER (io), 56 PB20B, PCLKC2_1 (io), 57 PB21A (io), 58 PB21B (io), 59 PB23A (io), 60 PB23B (io), 61 PB24A (io), 62 PB24B (io), 63 PB24D (io), 65 PB27A (io), 67 PB27B (io), 68 PB29A (io), 69 PB29B (io), 70 PB30A, SN/MD5/SCAN_SHFT_ENB/TDIB (io), 71 PB30B, SI/SISPI/IO0/MD0/TDOR (io)
part D pins: 25 PL16A (io), 26 PL16B (io), 27 PL17A, PCLKT3_0 (io), 28 PL17B, PCLKC3_0 (io), 31 PL18D (io), 32 PL19A (io), 33 PL19B (io), 34 PL20A (io), 35 PL20B (io)
part E pins: 13 PL9A (io), 14 PL9B (io), 15 PL10A (io), 17 PL10B (io), 19 PL10C, PCLKT4_0 (io), 20 PL10D, PCLKC4_0 (io), 21 PL13A (io), 22 PL13B (io), 23 PL14A (io), 24 PL14B (io)
part F pins: 1 PL3A, L_GPLLT_FB (io), 2 PL3B, L_GPLLC_FB (io), 3 PL4A, L_GPLLT_IN (io), 4 PL4B, L_GPLLC_IN (io), 5 PL6A, PCLKT5_0 (io), 6 PL6B, PCLKC5_0 (io), 9 PL7A (io), 10 PL7B (io), 11 PL8A (io), 12 PL8B (io)
part G pins: 7 VCCIO5 (power), 16 VCCIO4 (power), 30 VCCIO3 (power), 36 VCC (power), 37 VCCIO2 (power), 51 VCCIO2 (power), 66 VCCIO2 (power), 72 VCC (power), 79 VCCIO1 (power), 88 VCCIO1 (power), 102 VCCIO1 (power), 108 VCC (power), 118 VCCIO0 (power), 123 VCCIO0 (power), 129 NC, 135 VCCIO0 (power), 144 VCC (power)
part H pins: 8 GND (power), 18 GND (power), 29 GND (power), 46 GND (power), 53 GND (power), 64 GND (power), 80 GND (power), 90 GND (power), 101 GND (power), 116 GND (power), 124 GND (power), 134 GND (power)
part A text: BANK 0
part B text: BANK 1
part C text: BANK 2
part D text: BANK 3
part E text: BANK 4
part F text: BANK 5

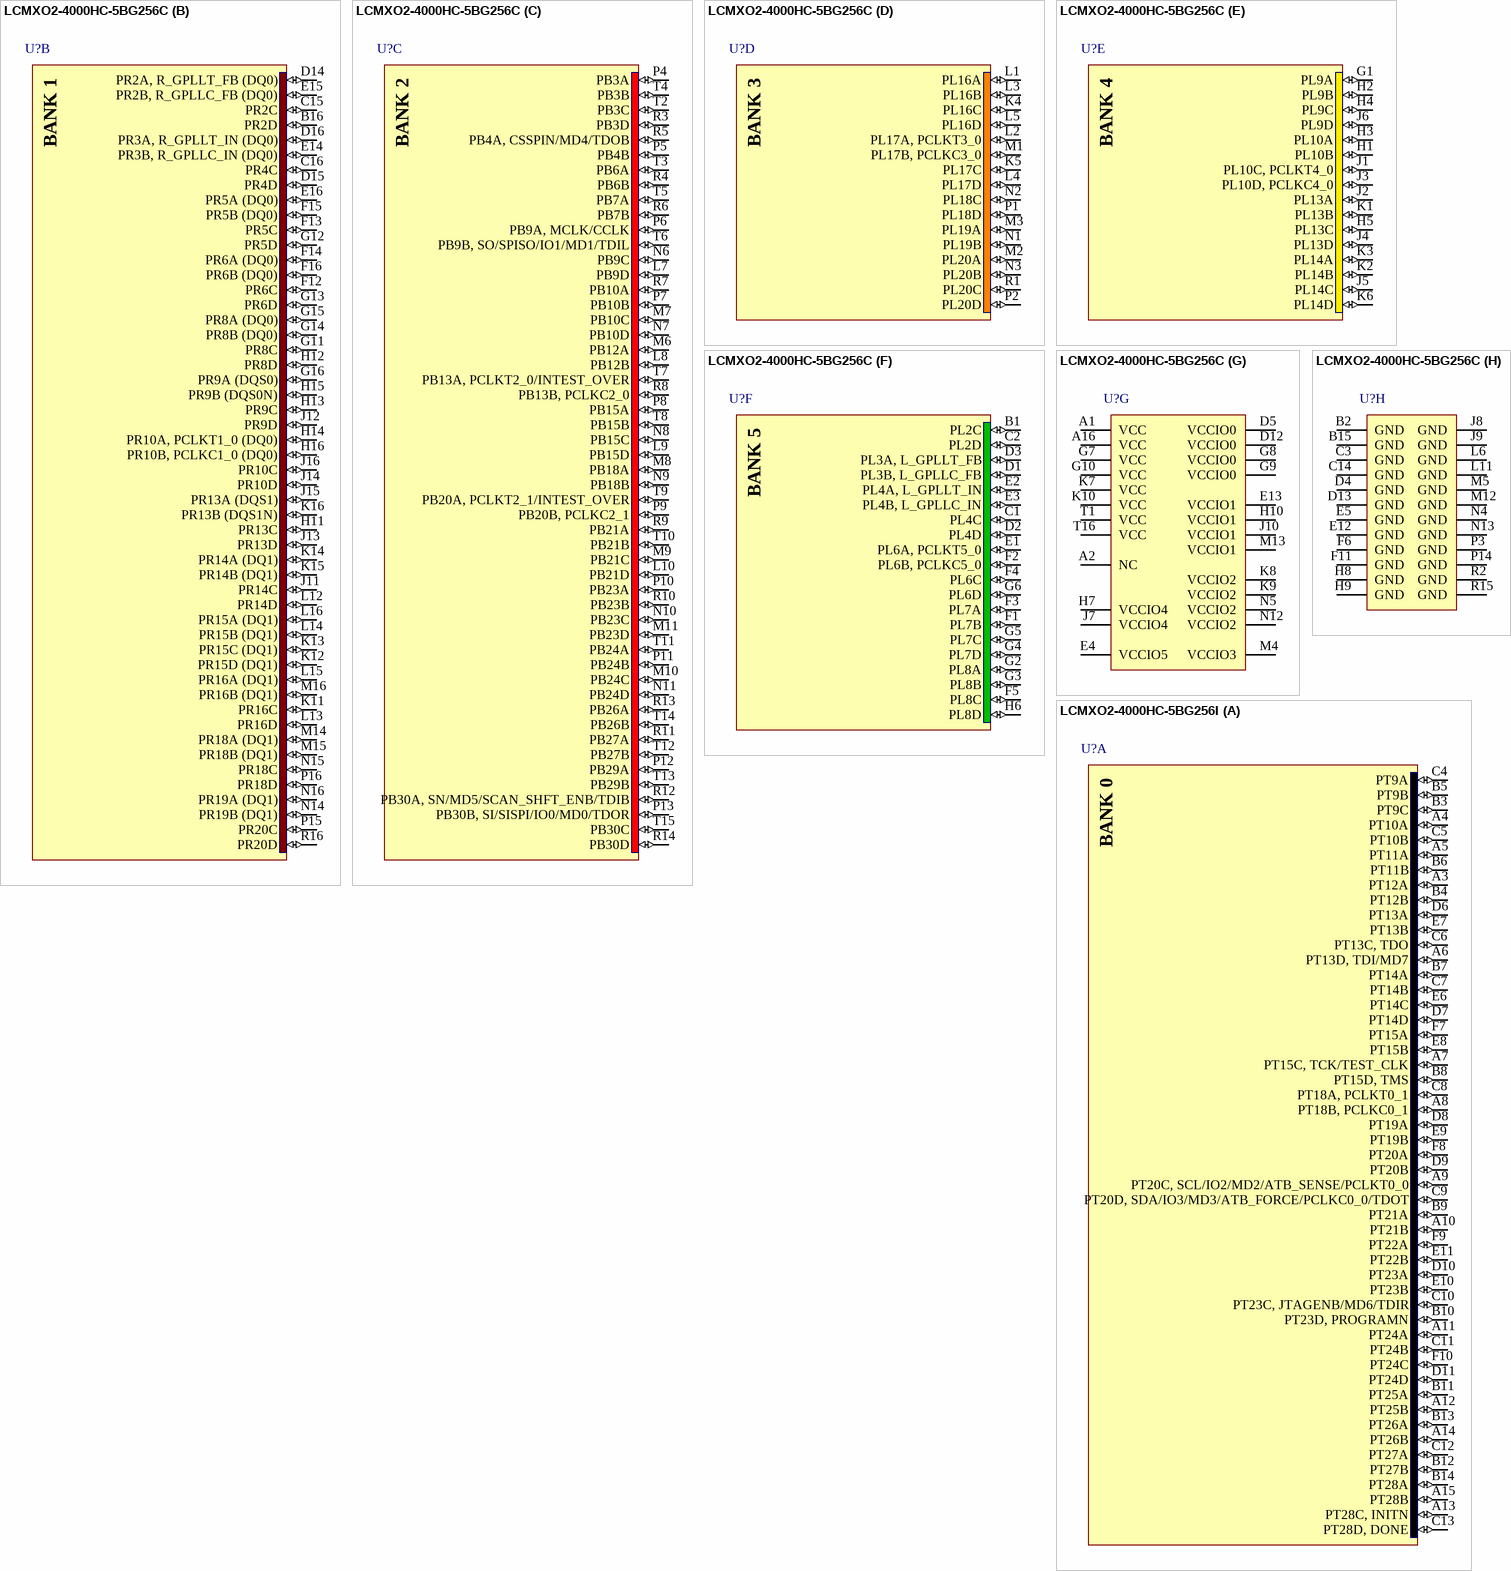
[diagram p147: symbols LCMXO2-4000HC-5BG256C to LCMXO2-4000HC-5BG256I]

## LCMXO2-4000HC-5BG256C
designator U?
MachXO2 High Performance CPLD with 4320 LUTs, Voltage Regulator, 2.5V/3.3V, 256-pin caBGA, Speed Grade-5, Commercial Grade, Halogen Free (RoHS); DatasheetVersion: ver01.5, Aug-2011; PackageVersion: ver02.8, Jul-2011; PackageReference: caBGA256; PackageDescription: 256-Ball caBGA Package, 14 x 14 mm Body, 0.8 mm Pitch; Code_JEDEC: MO-275-JJAB-2; ComponentLink1Description: Manufacturer URL; ComponentLink1URL: http://www.latticesemi.com/; ComponentLink2Description: Datasheet; ComponentLink2URL: http://www.latticesemi.com/documents/DS1035.pdf; ComponentLink3Description: Package Specification; ComponentLink3URL: http://www.latticesemi.com/lit/docs/package/pkg.pdf
footprint caBGA256 (BGA, 256-Leads, Body 14x14mm, Pitch 0.8mm, Nominal Pad Dia. 0.4mm, Lattice Recommended)
part A pins: A3 PT12A (io), A4 PT10A (io), A5 PT11A (io), A6 PT13D, TDI/MD7 (io), A7 PT15C, TCK/TEST_CLK (io), A8 PT18B, PCLKC0_1 (io), A9 PT20C, SCL/IO2/MD2/ATB_SENSE/PCLKT0_0 (io), A10 PT21B (io), A11 PT24A (io), A12 PT25B (io), A13 PT28C, INITN (io), A14 PT26B (io), A15 PT28B (io), B3 PT9C (io), B4 PT12B (io), B5 PT9B (io), B6 PT11B (io), B7 PT14A (io), B8 PT15D, TMS (io), B9 PT21A (io), B10 PT23D, PROGRAMN (io), B11 PT25A (io), B12 PT27B (io), B13 PT26A (io), B14 PT28A (io), C4 PT9A (io), C5 PT10B (io), C6 PT13C, TDO (io), C7 PT14B (io), C8 PT18A, PCLKT0_1 (io), C9 PT20D, SDA/IO3/MD3/ATB_FORCE/PCLKC0_0/TDOT (io), C10 PT23C, JTAGENB/MD6/TDIR (io), C11 PT24B (io), C12 PT27A (io), C13 PT28D, DONE (io), D6 PT13A (io), D7 PT14D (io), D8 PT19A (io), D9 PT20B (io), D10 PT23A (io), D11 PT24D (io), E6 PT14C (io), E7 PT13B (io), E8 PT15B (io), E9 PT19B (io), E10 PT23B (io), E11 PT22B (io), F7 PT15A (io), F8 PT20A (io), F9 PT22A (io), F10 PT24C (io)
part B pins: B16 PR2D (io), C15 PR2C (io), C16 PR4C (io), D14 PR2A, R_GPLLT_FB (DQ0) (io), D15 PR4D (io), D16 PR3A, R_GPLLT_IN (DQ0) (io), E14 PR3B, R_GPLLC_IN (DQ0) (io), E15 PR2B, R_GPLLC_FB (DQ0) (io), E16 PR5A (DQ0) (io), F12 PR6C (io), F13 PR5C (io), F14 PR6A (DQ0) (io), F15 PR5B (DQ0) (io), F16 PR6B (DQ0) (io), G11 PR8C (io), G12 PR5D (io), G13 PR6D (io), G14 PR8B (DQ0) (io), G15 PR8A (DQ0) (io), G16 PR9A (DQS0) (io), H11 PR13C (io), H12 PR8D (io), H13 PR9C (io), H14 PR10A, PCLKT1_0 (DQ0) (io), H15 PR9B (DQS0N) (io), H16 PR10B, PCLKC1_0 (DQ0) (io), J11 PR14C (io), J12 PR9D (io), J13 PR13D (io), J14 PR10D (io), J15 PR13A (DQS1) (io), J16 PR10C (io), K11 PR16C (io), K12 PR15D (DQ1) (io), K13 PR15C (DQ1) (io), K14 PR14A (DQ1) (io), K15 PR14B (DQ1) (io), K16 PR13B (DQS1N) (io), L12 PR14D (io), L13 PR16D (io), L14 PR15B (DQ1) (io), L15 PR16A (DQ1) (io), L16 PR15A (DQ1) (io), M14 PR18A (DQ1) (io), M15 PR18B (DQ1) (io), M16 PR16B (DQ1) (io), N14 PR19B (DQ1) (io), N15 PR18C (io), N16 PR19A (DQ1) (io), P15 PR20C (io), P16 PR18D (io), R16 PR20D (io)
part C pins: L7 PB9D (io), L8 PB12B (io), L9 PB15D (io), L10 PB21D (io), M6 PB12A (io), M7 PB10C (io), M8 PB18A (io), M9 PB21C (io), M10 PB24C (io), M11 PB23D (io), N6 PB9C (io), N7 PB10D (io), N8 PB15C (io), N9 PB18B (io), N10 PB23C (io), N11 PB24D (io), P4 PB3A (io), P5 PB4B (io), P6 PB9A, MCLK/CCLK (io), P7 PB10B (io), P8 PB15A (io), P9 PB20B, PCLKC2_1 (io), P10 PB23A (io), P11 PB24B (io), P12 PB29A (io), P13 PB30B, SI/SISPI/IO0/MD0/TDOR (io), R3 PB3D (io), R4 PB6B (io), R5 PB4A, CSSPIN/MD4/TDOB (io), R6 PB7B (io), R7 PB10A (io), R8 PB13B, PCLKC2_0 (io), R9 PB21A (io), R10 PB23B (io), R11 PB27A (io), R12 PB30A, SN/MD5/SCAN_SHFT_ENB/TDIB (io), R13 PB26A (io), R14 PB30D (io), T2 PB3C (io), T3 PB6A (io), T4 PB3B (io), T5 PB7A (io), T6 PB9B, SO/SPISO/IO1/MD1/TDIL (io), T7 PB13A, PCLKT2_0/INTEST_OVER (io), T8 PB15B (io), T9 PB20A, PCLKT2_1/INTEST_OVER (io), T10 PB21B (io), T11 PB24A (io), T12 PB27B (io), T13 PB29B (io), T14 PB26B (io), T15 PB30C (io)
part D pins: K4 PL16C (io), K5 PL17C (io), L1 PL16A (io), L2 PL17A, PCLKT3_0 (io), L3 PL16B (io), L4 PL17D (io), L5 PL16D (io), M1 PL17B, PCLKC3_0 (io), M2 PL20A (io), M3 PL19A (io), N1 PL19B (io), N2 PL18C (io), N3 PL20B (io), P1 PL18D (io), P2 PL20D (io), R1 PL20C (io)
part E pins: G1 PL9A (io), H1 PL10B (io), H2 PL9B (io), H3 PL10A (io), H4 PL9C (io), H5 PL13C (io), J1 PL10C, PCLKT4_0 (io), J2 PL13A (io), J3 PL10D, PCLKC4_0 (io), J4 PL13D (io), J5 PL14C (io), J6 PL9D (io), K1 PL13B (io), K2 PL14B (io), K3 PL14A (io), K6 PL14D (io)
part F pins: B1 PL2C (io), C1 PL4C (io), C2 PL2D (io), D1 PL3B, L_GPLLC_FB (io), D2 PL4D (io), D3 PL3A, L_GPLLT_FB (io), E1 PL6A, PCLKT5_0 (io), E2 PL4A, L_GPLLT_IN (io), E3 PL4B, L_GPLLC_IN (io), F1 PL7B (io), F2 PL6B, PCLKC5_0 (io), F3 PL7A (io), F4 PL6C (io), F5 PL8C (io), G2 PL8A (io), G3 PL8B (io), G4 PL7D (io), G5 PL7C (io), G6 PL6D (io), H6 PL8D (io)
part G pins: A1 VCC (power), A2 NC, A16 VCC (power), D5 VCCIO0 (power), D12 VCCIO0 (power), E4 VCCIO5 (power), E13 VCCIO1 (power), G7 VCC (power), G8 VCCIO0 (power), G9 VCCIO0 (power), G10 VCC (power), H7 VCCIO4 (power), H10 VCCIO1 (power), J7 VCCIO4 (power), J10 VCCIO1 (power), K7 VCC (power), K8 VCCIO2 (power), K9 VCCIO2 (power), K10 VCC (power), M4 VCCIO3 (power), M13 VCCIO1 (power), N5 VCCIO2 (power), N12 VCCIO2 (power), T1 VCC (power), T16 VCC (power)
part H pins: B2 GND (power), B15 GND (power), C3 GND (power), C14 GND (power), D4 GND (power), D13 GND (power), E5 GND (power), E12 GND (power), F6 GND (power), F11 GND (power), H8 GND (power), H9 GND (power), J8 GND (power), J9 GND (power), L6 GND (power), L11 GND (power), M5 GND (power), M12 GND (power), N4 GND (power), N13 GND (power), P3 GND (power), P14 GND (power), R2 GND (power), R15 GND (power)
part A text: BANK 0
part B text: BANK 1
part C text: BANK 2
part D text: BANK 3
part E text: BANK 4
part F text: BANK 5

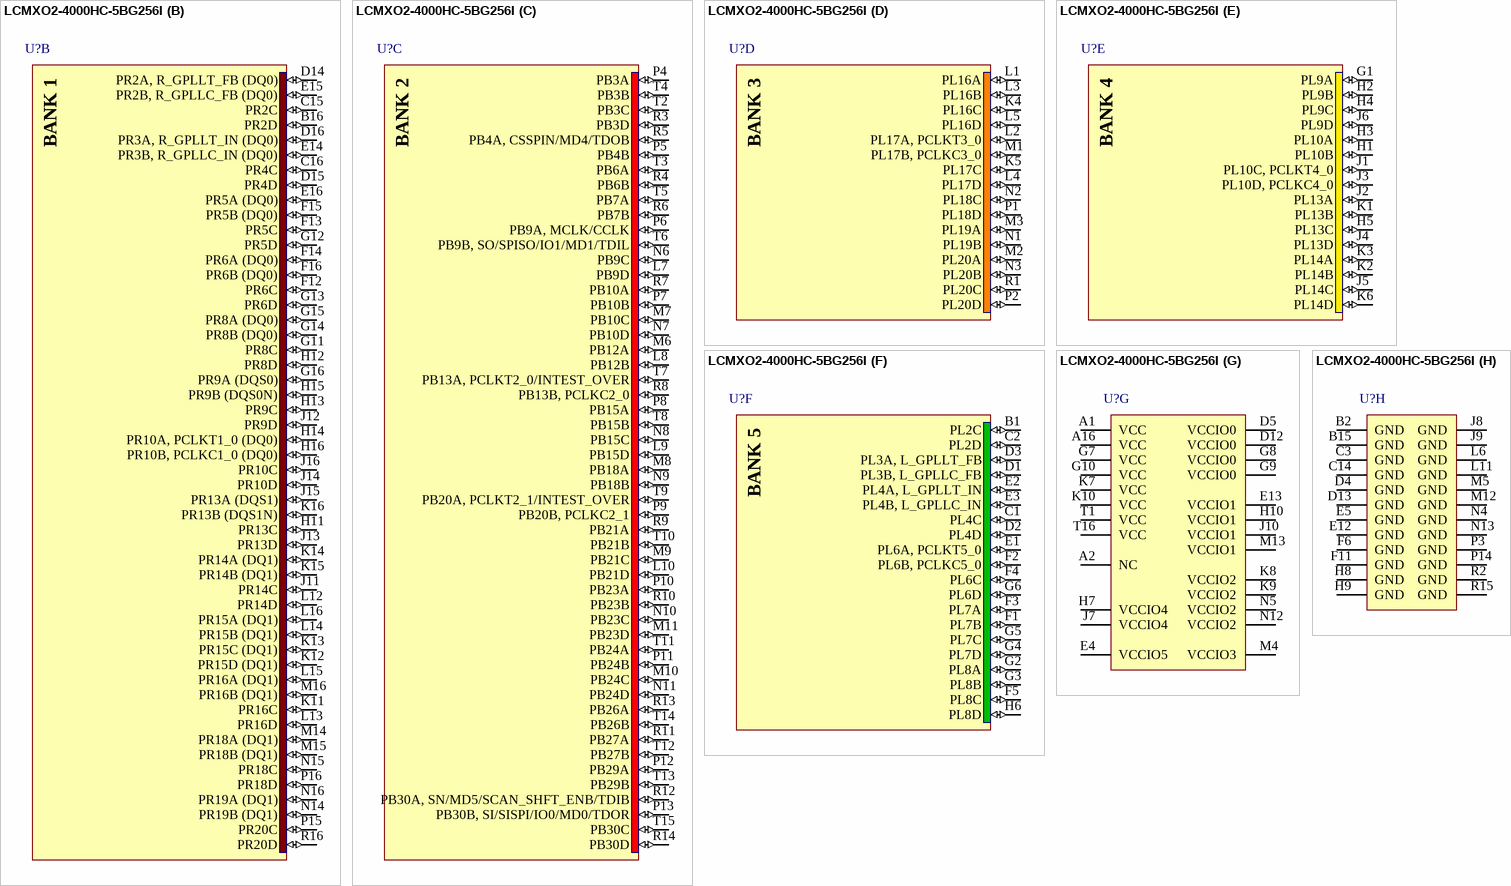
[diagram p148: symbol LCMXO2-4000HC-5BG256I]

## LCMXO2-4000HC-5BG256I
designator U?
MachXO2 High Performance CPLD with 4320 LUTs, Voltage Regulator, 2.5V/3.3V, 256-pin caBGA, Speed Grade-5, Industrial Grade, Halogen Free (RoHS); DatasheetVersion: ver01.5, Aug-2011; PackageVersion: ver02.8, Jul-2011; PackageReference: caBGA256; PackageDescription: 256-Ball caBGA Package, 14 x 14 mm Body, 0.8 mm Pitch; Code_JEDEC: MO-275-JJAB-2; ComponentLink1Description: Manufacturer URL; ComponentLink1URL: http://www.latticesemi.com/; ComponentLink2Description: Datasheet; ComponentLink2URL: http://www.latticesemi.com/documents/DS1035.pdf; ComponentLink3Description: Package Specification; ComponentLink3URL: http://www.latticesemi.com/lit/docs/package/pkg.pdf
footprint caBGA256 (BGA, 256-Leads, Body 14x14mm, Pitch 0.8mm, Nominal Pad Dia. 0.4mm, Lattice Recommended)
part A pins: A3 PT12A (io), A4 PT10A (io), A5 PT11A (io), A6 PT13D, TDI/MD7 (io), A7 PT15C, TCK/TEST_CLK (io), A8 PT18B, PCLKC0_1 (io), A9 PT20C, SCL/IO2/MD2/ATB_SENSE/PCLKT0_0 (io), A10 PT21B (io), A11 PT24A (io), A12 PT25B (io), A13 PT28C, INITN (io), A14 PT26B (io), A15 PT28B (io), B3 PT9C (io), B4 PT12B (io), B5 PT9B (io), B6 PT11B (io), B7 PT14A (io), B8 PT15D, TMS (io), B9 PT21A (io), B10 PT23D, PROGRAMN (io), B11 PT25A (io), B12 PT27B (io), B13 PT26A (io), B14 PT28A (io), C4 PT9A (io), C5 PT10B (io), C6 PT13C, TDO (io), C7 PT14B (io), C8 PT18A, PCLKT0_1 (io), C9 PT20D, SDA/IO3/MD3/ATB_FORCE/PCLKC0_0/TDOT (io), C10 PT23C, JTAGENB/MD6/TDIR (io), C11 PT24B (io), C12 PT27A (io), C13 PT28D, DONE (io), D6 PT13A (io), D7 PT14D (io), D8 PT19A (io), D9 PT20B (io), D10 PT23A (io), D11 PT24D (io), E6 PT14C (io), E7 PT13B (io), E8 PT15B (io), E9 PT19B (io), E10 PT23B (io), E11 PT22B (io), F7 PT15A (io), F8 PT20A (io), F9 PT22A (io), F10 PT24C (io)
part B pins: B16 PR2D (io), C15 PR2C (io), C16 PR4C (io), D14 PR2A, R_GPLLT_FB (DQ0) (io), D15 PR4D (io), D16 PR3A, R_GPLLT_IN (DQ0) (io), E14 PR3B, R_GPLLC_IN (DQ0) (io), E15 PR2B, R_GPLLC_FB (DQ0) (io), E16 PR5A (DQ0) (io), F12 PR6C (io), F13 PR5C (io), F14 PR6A (DQ0) (io), F15 PR5B (DQ0) (io), F16 PR6B (DQ0) (io), G11 PR8C (io), G12 PR5D (io), G13 PR6D (io), G14 PR8B (DQ0) (io), G15 PR8A (DQ0) (io), G16 PR9A (DQS0) (io), H11 PR13C (io), H12 PR8D (io), H13 PR9C (io), H14 PR10A, PCLKT1_0 (DQ0) (io), H15 PR9B (DQS0N) (io), H16 PR10B, PCLKC1_0 (DQ0) (io), J11 PR14C (io), J12 PR9D (io), J13 PR13D (io), J14 PR10D (io), J15 PR13A (DQS1) (io), J16 PR10C (io), K11 PR16C (io), K12 PR15D (DQ1) (io), K13 PR15C (DQ1) (io), K14 PR14A (DQ1) (io), K15 PR14B (DQ1) (io), K16 PR13B (DQS1N) (io), L12 PR14D (io), L13 PR16D (io), L14 PR15B (DQ1) (io), L15 PR16A (DQ1) (io), L16 PR15A (DQ1) (io), M14 PR18A (DQ1) (io), M15 PR18B (DQ1) (io), M16 PR16B (DQ1) (io), N14 PR19B (DQ1) (io), N15 PR18C (io), N16 PR19A (DQ1) (io), P15 PR20C (io), P16 PR18D (io), R16 PR20D (io)
part C pins: L7 PB9D (io), L8 PB12B (io), L9 PB15D (io), L10 PB21D (io), M6 PB12A (io), M7 PB10C (io), M8 PB18A (io), M9 PB21C (io), M10 PB24C (io), M11 PB23D (io), N6 PB9C (io), N7 PB10D (io), N8 PB15C (io), N9 PB18B (io), N10 PB23C (io), N11 PB24D (io), P4 PB3A (io), P5 PB4B (io), P6 PB9A, MCLK/CCLK (io), P7 PB10B (io), P8 PB15A (io), P9 PB20B, PCLKC2_1 (io), P10 PB23A (io), P11 PB24B (io), P12 PB29A (io), P13 PB30B, SI/SISPI/IO0/MD0/TDOR (io), R3 PB3D (io), R4 PB6B (io), R5 PB4A, CSSPIN/MD4/TDOB (io), R6 PB7B (io), R7 PB10A (io), R8 PB13B, PCLKC2_0 (io), R9 PB21A (io), R10 PB23B (io), R11 PB27A (io), R12 PB30A, SN/MD5/SCAN_SHFT_ENB/TDIB (io), R13 PB26A (io), R14 PB30D (io), T2 PB3C (io), T3 PB6A (io), T4 PB3B (io), T5 PB7A (io), T6 PB9B, SO/SPISO/IO1/MD1/TDIL (io), T7 PB13A, PCLKT2_0/INTEST_OVER (io), T8 PB15B (io), T9 PB20A, PCLKT2_1/INTEST_OVER (io), T10 PB21B (io), T11 PB24A (io), T12 PB27B (io), T13 PB29B (io), T14 PB26B (io), T15 PB30C (io)
part D pins: K4 PL16C (io), K5 PL17C (io), L1 PL16A (io), L2 PL17A, PCLKT3_0 (io), L3 PL16B (io), L4 PL17D (io), L5 PL16D (io), M1 PL17B, PCLKC3_0 (io), M2 PL20A (io), M3 PL19A (io), N1 PL19B (io), N2 PL18C (io), N3 PL20B (io), P1 PL18D (io), P2 PL20D (io), R1 PL20C (io)
part E pins: G1 PL9A (io), H1 PL10B (io), H2 PL9B (io), H3 PL10A (io), H4 PL9C (io), H5 PL13C (io), J1 PL10C, PCLKT4_0 (io), J2 PL13A (io), J3 PL10D, PCLKC4_0 (io), J4 PL13D (io), J5 PL14C (io), J6 PL9D (io), K1 PL13B (io), K2 PL14B (io), K3 PL14A (io), K6 PL14D (io)
part F pins: B1 PL2C (io), C1 PL4C (io), C2 PL2D (io), D1 PL3B, L_GPLLC_FB (io), D2 PL4D (io), D3 PL3A, L_GPLLT_FB (io), E1 PL6A, PCLKT5_0 (io), E2 PL4A, L_GPLLT_IN (io), E3 PL4B, L_GPLLC_IN (io), F1 PL7B (io), F2 PL6B, PCLKC5_0 (io), F3 PL7A (io), F4 PL6C (io), F5 PL8C (io), G2 PL8A (io), G3 PL8B (io), G4 PL7D (io), G5 PL7C (io), G6 PL6D (io), H6 PL8D (io)
part G pins: A1 VCC (power), A2 NC, A16 VCC (power), D5 VCCIO0 (power), D12 VCCIO0 (power), E4 VCCIO5 (power), E13 VCCIO1 (power), G7 VCC (power), G8 VCCIO0 (power), G9 VCCIO0 (power), G10 VCC (power), H7 VCCIO4 (power), H10 VCCIO1 (power), J7 VCCIO4 (power), J10 VCCIO1 (power), K7 VCC (power), K8 VCCIO2 (power), K9 VCCIO2 (power), K10 VCC (power), M4 VCCIO3 (power), M13 VCCIO1 (power), N5 VCCIO2 (power), N12 VCCIO2 (power), T1 VCC (power), T16 VCC (power)
part H pins: B2 GND (power), B15 GND (power), C3 GND (power), C14 GND (power), D4 GND (power), D13 GND (power), E5 GND (power), E12 GND (power), F6 GND (power), F11 GND (power), H8 GND (power), H9 GND (power), J8 GND (power), J9 GND (power), L6 GND (power), L11 GND (power), M5 GND (power), M12 GND (power), N4 GND (power), N13 GND (power), P3 GND (power), P14 GND (power), R2 GND (power), R15 GND (power)
part A text: BANK 0
part B text: BANK 1
part C text: BANK 2
part D text: BANK 3
part E text: BANK 4
part F text: BANK 5

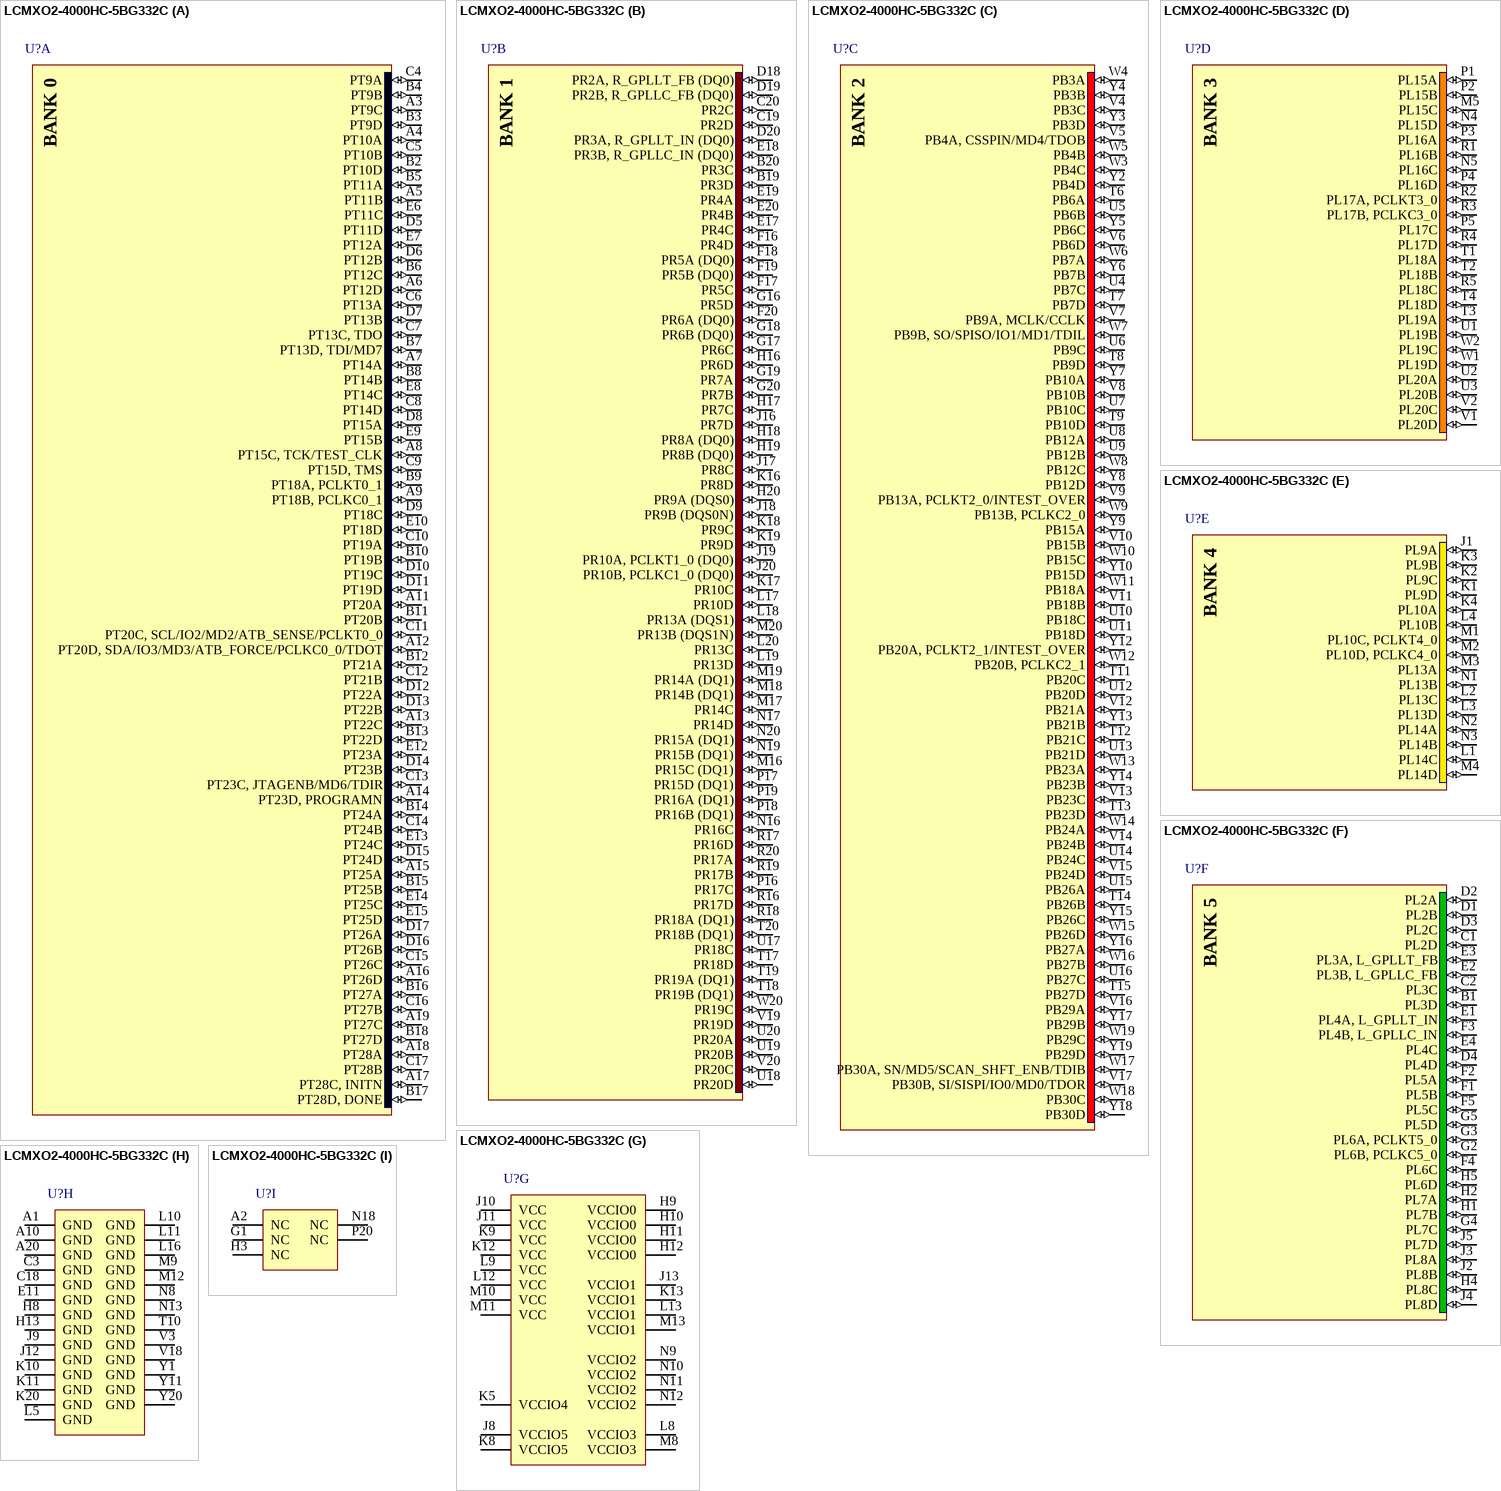
[diagram p149: symbol LCMXO2-4000HC-5BG332C]

## LCMXO2-4000HC-5BG332C
designator U?
MachXO2 High Performance CPLD with 4320 LUTs, Voltage Regulator, 2.5V/3.3V, 332-pin caBGA, Speed Grade-5, Commercial Grade, Halogen Free (RoHS); DatasheetVersion: ver01.5, Aug-2011; PackageVersion: ver02.8, Jul-2011; PackageReference: caBGA332; PackageDescription: 332-Ball caBGA Package, 17 x 17 mm Body, 0.8 mm Pitch; ComponentLink1Description: Manufacturer URL; ComponentLink1URL: http://www.latticesemi.com/; ComponentLink2Description: Datasheet; ComponentLink2URL: http://www.latticesemi.com/documents/DS1035.pdf; ComponentLink3Description: Package Specification; ComponentLink3URL: http://www.latticesemi.com/lit/docs/package/pkg.pdf
footprint caBGA332 (BGA, 332-Leads, Body 17x17mm, Pitch 0.8mm)
part A pins: A3 PT9C (io), A4 PT10A (io), A5 PT11B (io), A6 PT12D (io), A7 PT14A (io), A8 PT15C, TCK/TEST_CLK (io), A9 PT18B, PCLKC0_1 (io), A11 PT20A (io), A12 PT20D, SDA/IO3/MD3/ATB_FORCE/PCLKC0_0/TDOT (io), A13 PT22C (io), A14 PT23D, PROGRAMN (io), A15 PT25A (io), A16 PT26D (io), A17 PT28C, INITN (io), A18 PT28A (io), A19 PT27C (io), B2 PT10D (io), B3 PT9D (io), B4 PT9B (io), B5 PT11A (io), B6 PT12C (io), B7 PT13D, TDI/MD7 (io), B8 PT14B (io), B9 PT18A, PCLKT0_1 (io), B10 PT19B (io), B11 PT20B (io), B12 PT21A (io), B13 PT22D (io), B14 PT24A (io), B15 PT25B (io), B16 PT27A (io), B17 PT28D, DONE (io), B18 PT27D (io), C4 PT9A (io), C5 PT10B (io), C6 PT13A (io), C7 PT13C, TDO (io), C8 PT14D (io), C9 PT15D, TMS (io), C10 PT19A (io), C11 PT20C, SCL/IO2/MD2/ATB_SENSE/PCLKT0_0 (io), C12 PT21B (io), C13 PT23C, JTAGENB/MD6/TDIR (io), C14 PT24B (io), C15 PT26C (io), C16 PT27B (io), C17 PT28B (io), D5 PT11D (io), D6 PT12B (io), D7 PT13B (io), D8 PT15A (io), D9 PT18C (io), D10 PT19C (io), D11 PT19D (io), D12 PT22A (io), D13 PT22B (io), D14 PT23B (io), D15 PT24D (io), D16 PT26B (io), D17 PT26A (io), E6 PT11C (io), E7 PT12A (io), E8 PT14C (io), E9 PT15B (io), E10 PT18D (io), E12 PT23A (io), E13 PT24C (io), E14 PT25C (io), E15 PT25D (io)
part B pins: B19 PR3D (io), B20 PR3C (io), C19 PR2D (io), C20 PR2C (io), D18 PR2A, R_GPLLT_FB (DQ0) (io), D19 PR2B, R_GPLLC_FB (DQ0) (io), D20 PR3A, R_GPLLT_IN (DQ0) (io), E17 PR4C (io), E18 PR3B, R_GPLLC_IN (DQ0) (io), E19 PR4A (io), E20 PR4B (io), F16 PR4D (io), F17 PR5C (io), F18 PR5A (DQ0) (io), F19 PR5B (DQ0) (io), F20 PR6A (DQ0) (io), G16 PR5D (io), G17 PR6C (io), G18 PR6B (DQ0) (io), G19 PR7A (io), G20 PR7B (io), H16 PR6D (io), H17 PR7C (io), H18 PR8A (DQ0) (io), H19 PR8B (DQ0) (io), H20 PR9A (DQS0) (io), J16 PR7D (io), J17 PR8C (io), J18 PR9B (DQS0N) (io), J19 PR10A, PCLKT1_0 (DQ0) (io), J20 PR10B, PCLKC1_0 (DQ0) (io), K16 PR8D (io), K17 PR10C (io), K18 PR9C (io), K19 PR9D (io), L17 PR10D (io), L18 PR13A (DQS1) (io), L19 PR13D (io), L20 PR13C (io), M16 PR15C (DQ1) (io), M17 PR14C (io), M18 PR14B (DQ1) (io), M19 PR14A (DQ1) (io), M20 PR13B (DQS1N) (io), N16 PR16C (io), N17 PR14D (io), N19 PR15B (DQ1) (io), N20 PR15A (DQ1) (io), P16 PR17C (io), P17 PR15D (DQ1) (io), P18 PR16B (DQ1) (io), P19 PR16A (DQ1) (io), R16 PR17D (io), R17 PR16D (io), R18 PR18A (DQ1) (io), R19 PR17B (io), R20 PR17A (io), T17 PR18D (io), T18 PR19B (DQ1) (io), T19 PR19A (DQ1) (io), T20 PR18B (DQ1) (io), U17 PR18C (io), U18 PR20D (io), U19 PR20B (io), U20 PR20A (io), V19 PR19D (io), V20 PR20C (io), W20 PR19C (io)
part C pins: T6 PB6A (io), T7 PB7D (io), T8 PB9D (io), T9 PB10D (io), T11 PB20C (io), T12 PB21C (io), T13 PB23D (io), T14 PB26B (io), T15 PB27D (io), U4 PB7C (io), U5 PB6B (io), U6 PB9C (io), U7 PB10C (io), U8 PB12A (io), U9 PB12B (io), U10 PB18C (io), U11 PB18D (io), U12 PB20D (io), U13 PB21D (io), U14 PB24C (io), U15 PB26A (io), U16 PB27C (io), V4 PB3C (io), V5 PB4A, CSSPIN/MD4/TDOB (io), V6 PB6D (io), V7 PB9A, MCLK/CCLK (io), V8 PB10B (io), V9 PB13A, PCLKT2_0/INTEST_OVER (io), V10 PB15B (io), V11 PB18B (io), V12 PB21A (io), V13 PB23C (io), V14 PB24B (io), V15 PB24D (io), V16 PB29A (io), V17 PB30B, SI/SISPI/IO0/MD0/TDOR (io), W3 PB4C (io), W4 PB3A (io), W5 PB4B (io), W6 PB7A (io), W7 PB9B, SO/SPISO/IO1/MD1/TDIL (io), W8 PB12C (io), W9 PB13B, PCLKC2_0 (io), W10 PB15C (io), W11 PB18A (io), W12 PB20B, PCLKC2_1 (io), W13 PB23A (io), W14 PB24A (io), W15 PB26D (io), W16 PB27B (io), W17 PB30A, SN/MD5/SCAN_SHFT_ENB/TDIB (io), W18 PB30C (io), W19 PB29C (io), Y2 PB4D (io), Y3 PB3D (io), Y4 PB3B (io), Y5 PB6C (io), Y6 PB7B (io), Y7 PB10A (io), Y8 PB12D (io), Y9 PB15A (io), Y10 PB15D (io), Y12 PB20A, PCLKT2_1/INTEST_OVER (io), Y13 PB21B (io), Y14 PB23B (io), Y15 PB26C (io), Y16 PB27A (io), Y17 PB29B (io), Y18 PB30D (io), Y19 PB29D (io)
part D pins: M5 PL15C (io), N4 PL15D (io), N5 PL16C (io), P1 PL15A (io), P2 PL15B (io), P3 PL16A (io), P4 PL16D (io), P5 PL17C (io), R1 PL16B (io), R2 PL17A, PCLKT3_0 (io), R3 PL17B, PCLKC3_0 (io), R4 PL17D (io), R5 PL18C (io), T1 PL18A (io), T2 PL18B (io), T3 PL19A (io), T4 PL18D (io), U1 PL19B (io), U2 PL20A (io), U3 PL20B (io), V1 PL20D (io), V2 PL20C (io), W1 PL19D (io), W2 PL19C (io)
part E pins: J1 PL9A (io), K1 PL9D (io), K2 PL9C (io), K3 PL9B (io), K4 PL10A (io), L1 PL14C (io), L2 PL13C (io), L3 PL13D (io), L4 PL10B (io), M1 PL10C, PCLKT4_0 (io), M2 PL10D, PCLKC4_0 (io), M3 PL13A (io), M4 PL14D (io), N1 PL13B (io), N2 PL14A (io), N3 PL14B (io)
part F pins: B1 PL3D (io), C1 PL2D (io), C2 PL3C (io), D1 PL2B (io), D2 PL2A (io), D3 PL2C (io), D4 PL4D (io), E1 PL4A, L_GPLLT_IN (io), E2 PL3B, L_GPLLC_FB (io), E3 PL3A, L_GPLLT_FB (io), E4 PL4C (io), F1 PL5B (io), F2 PL5A (io), F3 PL4B, L_GPLLC_IN (io), F4 PL6C (io), F5 PL5C (io), G2 PL6B, PCLKC5_0 (io), G3 PL6A, PCLKT5_0 (io), G4 PL7C (io), G5 PL5D (io), H1 PL7B (io), H2 PL7A (io), H4 PL8C (io), H5 PL6D (io), J2 PL8B (io), J3 PL8A (io), J4 PL8D (io), J5 PL7D (io)
part G pins: H9 VCCIO0 (power), H10 VCCIO0 (power), H11 VCCIO0 (power), H12 VCCIO0 (power), J8 VCCIO5 (power), J10 VCC (power), J11 VCC (power), J13 VCCIO1 (power), K5 VCCIO4 (power), K8 VCCIO5 (power), K9 VCC (power), K12 VCC (power), K13 VCCIO1 (power), L8 VCCIO3 (power), L9 VCC (power), L12 VCC (power), L13 VCCIO1 (power), M8 VCCIO3 (power), M10 VCC (power), M11 VCC (power), M13 VCCIO1 (power), N9 VCCIO2 (power), N10 VCCIO2 (power), N11 VCCIO2 (power), N12 VCCIO2 (power)
part H pins: A1 GND (power), A10 GND (power), A20 GND (power), C3 GND (power), C18 GND (power), E11 GND (power), H8 GND (power), H13 GND (power), J9 GND (power), J12 GND (power), K10 GND (power), K11 GND (power), K20 GND (power), L5 GND (power), L10 GND (power), L11 GND (power), L16 GND (power), M9 GND (power), M12 GND (power), N8 GND (power), N13 GND (power), T10 GND (power), V3 GND (power), V18 GND (power), Y1 GND (power), Y11 GND (power), Y20 GND (power)
part I pins: A2 NC, G1 NC, H3 NC, N18 NC, P20 NC
part A text: BANK 0
part B text: BANK 1
part C text: BANK 2
part D text: BANK 3
part E text: BANK 4
part F text: BANK 5

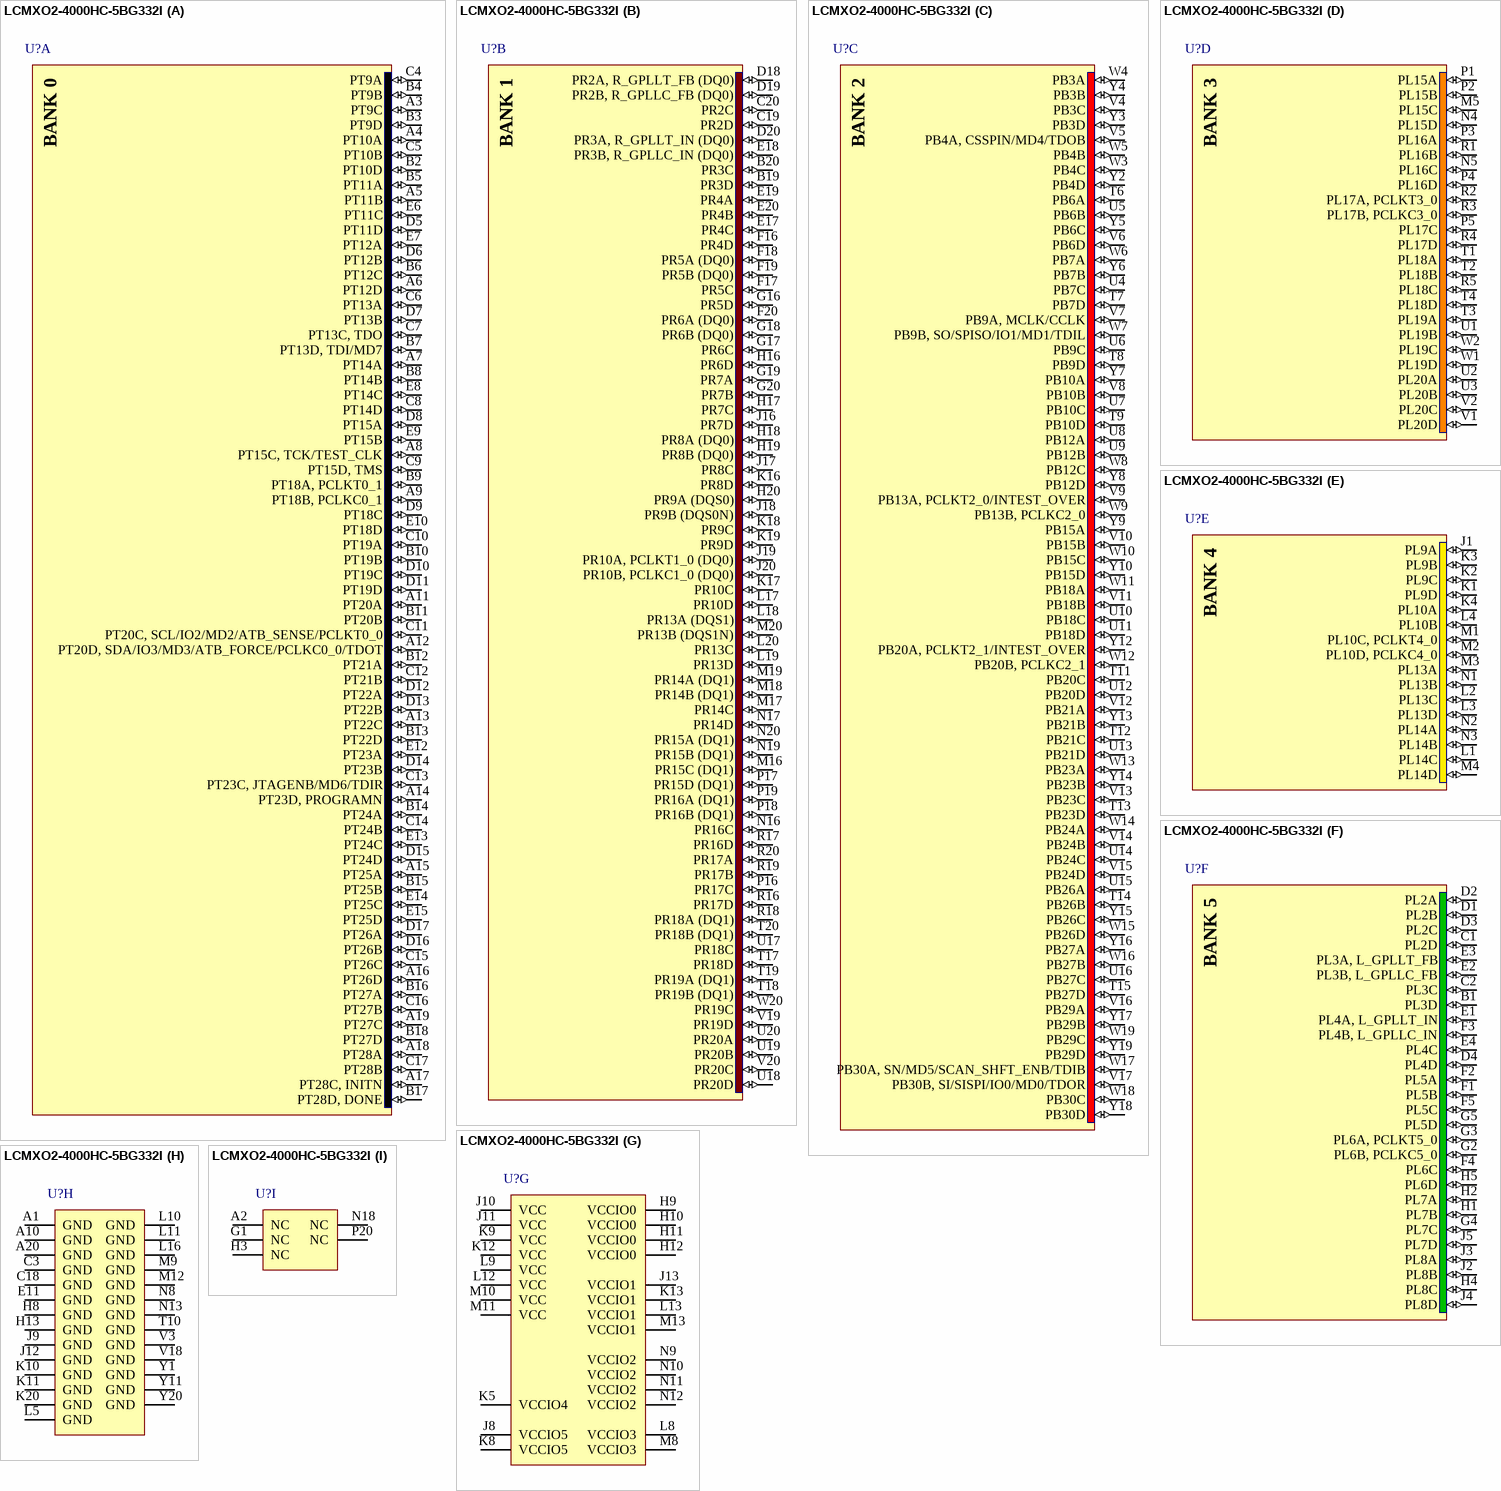
[diagram p150: symbol LCMXO2-4000HC-5BG332I]